# Altium integrated library NUVOTON.IntLib: 234 symbols (part 6 of 9)

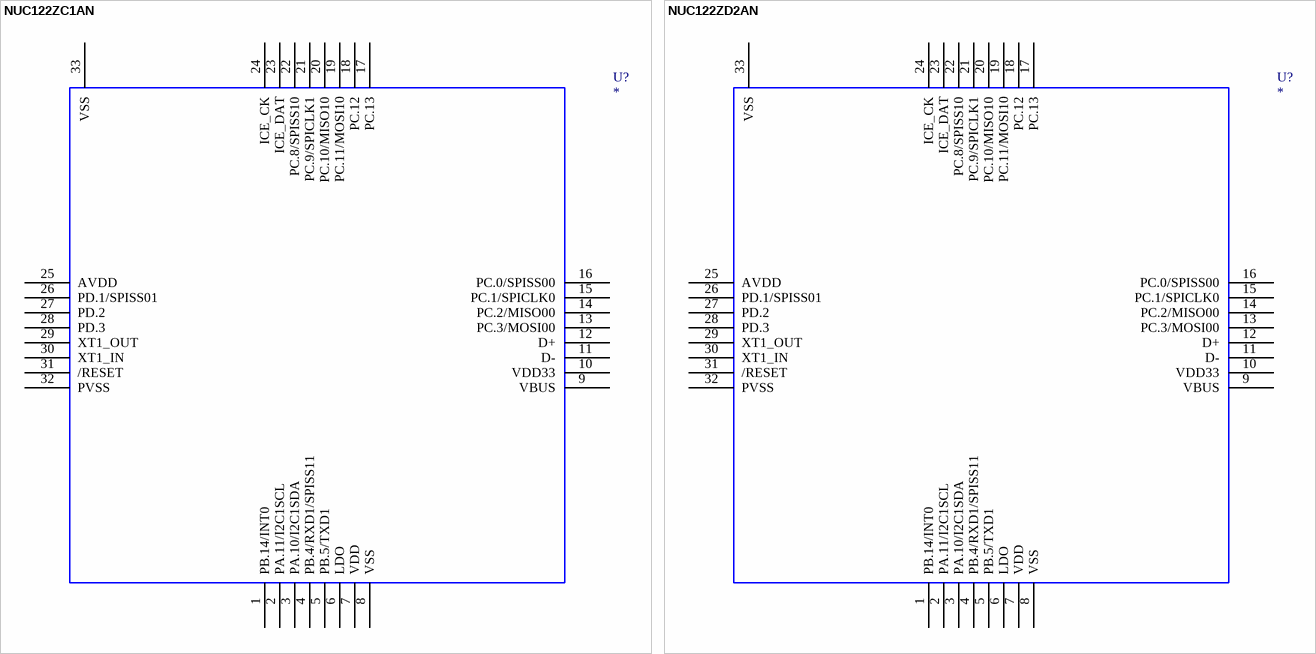
[diagram p115: symbols NUC122ZC1AN to NUC122ZD2AN]

## NUC122ZC1AN
designator U?
OriginalSymbolOrigin: (0,0)
footprint MCU_QFN_33_5x5
pins: 1 PB.14/INT0, 2 PA.11/I2C1SCL, 3 PA.10/I2C1SDA, 4 PB.4/RXD1/SPISS11, 5 PB.5/TXD1, 6 LDO, 7 VDD, 8 VSS, 9 VBUS, 10 VDD33, 11 D-, 12 D+, 13 PC.3/MOSI00, 14 PC.2/MISO00, 15 PC.1/SPICLK0, 16 PC.0/SPISS00, 17 PC.13, 18 PC.12, 19 PC.11/MOSI10, 20 PC.10/MISO10, 21 PC.9/SPICLK1, 22 PC.8/SPISS10, 23 ICE_DAT, 24 ICE_CK, 25 AVDD, 26 PD.1/SPISS01, 27 PD.2, 28 PD.3, 29 XT1_OUT, 30 XT1_IN, 31 /RESET, 32 PVSS, 33 VSS

## NUC122ZD2AN
designator U?
OriginalSymbolOrigin: (0,0)
footprint MCU_QFN_33_5x5
pins: 1 PB.14/INT0, 2 PA.11/I2C1SCL, 3 PA.10/I2C1SDA, 4 PB.4/RXD1/SPISS11, 5 PB.5/TXD1, 6 LDO, 7 VDD, 8 VSS, 9 VBUS, 10 VDD33, 11 D-, 12 D+, 13 PC.3/MOSI00, 14 PC.2/MISO00, 15 PC.1/SPICLK0, 16 PC.0/SPISS00, 17 PC.13, 18 PC.12, 19 PC.11/MOSI10, 20 PC.10/MISO10, 21 PC.9/SPICLK1, 22 PC.8/SPISS10, 23 ICE_DAT, 24 ICE_CK, 25 AVDD, 26 PD.1/SPISS01, 27 PD.2, 28 PD.3, 29 XT1_OUT, 30 XT1_IN, 31 /RESET, 32 PVSS, 33 VSS


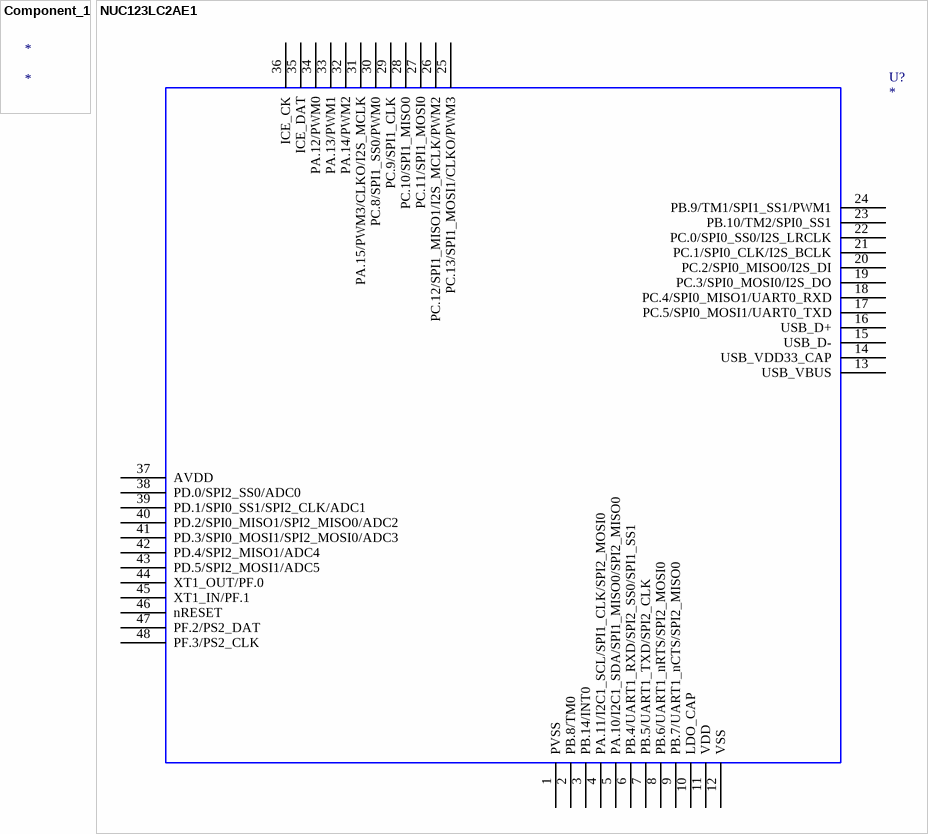
[diagram p116: symbols Component_1 to NUC123LC2AE1]

## Component_1
designator *

## NUC123LC2AE1
designator U?
OriginalSymbolOrigin: (0,0)
footprint MCU_LQFP_48
pins: 1 PVSS, 2 PB.8/TM0, 3 PB.14/INT0, 4 PA.11/I2C1_SCL/SPI1_CLK/SPI2_MOSI0, 5 PA.10/I2C1_SDA/SPI1_MISO0/SPI2_MISO0, 6 PB.4/UART1_RXD/SPI2_SS0/SPI1_SS1, 7 PB.5/UART1_TXD/SPI2_CLK, 8 PB.6/UART1_nRTS/SPI2_MOSI0, 9 PB.7/UART1_nCTS/SPI2_MISO0, 10 LDO_CAP, 11 VDD, 12 VSS, 13 USB_VBUS, 14 USB_VDD33_CAP, 15 USB_D-, 16 USB_D+, 17 PC.5/SPI0_MOSI1/UART0_TXD, 18 PC.4/SPI0_MISO1/UART0_RXD, 19 PC.3/SPI0_MOSI0/I2S_DO, 20 PC.2/SPI0_MISO0/I2S_DI, 21 PC.1/SPI0_CLK/I2S_BCLK, 22 PC.0/SPI0_SS0/I2S_LRCLK, 23 PB.10/TM2/SPI0_SS1, 24 PB.9/TM1/SPI1_SS1/PWM1, 25 PC.13/SPI1_MOSI1/CLKO/PWM3, 26 PC.12/SPI1_MISO1/I2S_MCLK/PWM2, 27 PC.11/SPI1_MOSI0, 28 PC.10/SPI1_MISO0, 29 PC.9/SPI1_CLK, 30 PC.8/SPI1_SS0/PWM0, 31 PA.15/PWM3/CLKO/I2S_MCLK, 32 PA.14/PWM2, 33 PA.13/PWM1, 34 PA.12/PWM0, 35 ICE_DAT, 36 ICE_CK, 37 AVDD, 38 PD.0/SPI2_SS0/ADC0, 39 PD.1/SPI0_SS1/SPI2_CLK/ADC1, 40 PD.2/SPI0_MISO1/SPI2_MISO0/ADC2, 41 PD.3/SPI0_MOSI1/SPI2_MOSI0/ADC3, 42 PD.4/SPI2_MISO1/ADC4, 43 PD.5/SPI2_MOSI1/ADC5, 44 XT1_OUT/PF.0, 45 XT1_IN/PF.1, 46 nRESET, 47 PF.2/PS2_DAT, 48 PF.3/PS2_CLK

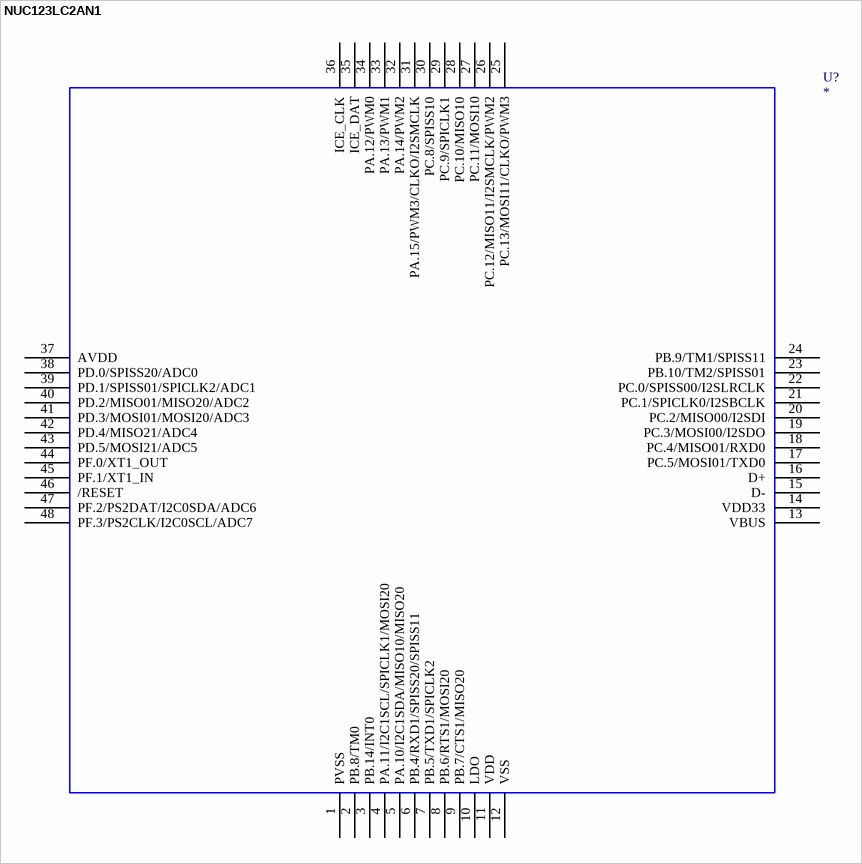
[diagram p117: symbol NUC123LC2AN1]

## NUC123LC2AN1
designator U?
OriginalSymbolOrigin: (0,0)
footprint MCU_LQFP_48
pins: 1 PVSS, 2 PB.8/TM0, 3 PB.14/INT0, 4 PA.11/I2C1SCL/SPICLK1/MOSI20, 5 PA.10/I2C1SDA/MISO10/MISO20, 6 PB.4/RXD1/SPISS20/SPISS11, 7 PB.5/TXD1/SPICLK2, 8 PB.6/RTS1/MOSI20, 9 PB.7/CTS1/MISO20, 10 LDO, 11 VDD, 12 VSS, 13 VBUS, 14 VDD33, 15 D-, 16 D+, 17 PC.5/MOSI01/TXD0, 18 PC.4/MISO01/RXD0, 19 PC.3/MOSI00/I2SDO, 20 PC.2/MISO00/I2SDI, 21 PC.1/SPICLK0/I2SBCLK, 22 PC.0/SPISS00/I2SLRCLK, 23 PB.10/TM2/SPISS01, 24 PB.9/TM1/SPISS11, 25 PC.13/MOSI11/CLKO/PWM3, 26 PC.12/MISO11/I2SMCLK/PWM2, 27 PC.11/MOSI10, 28 PC.10/MISO10, 29 PC.9/SPICLK1, 30 PC.8/SPISS10, 31 PA.15/PWM3/CLKO/I2SMCLK, 32 PA.14/PWM2, 33 PA.13/PWM1, 34 PA.12/PWM0, 35 ICE_DAT, 36 ICE_CLK, 37 AVDD, 38 PD.0/SPISS20/ADC0, 39 PD.1/SPISS01/SPICLK2/ADC1, 40 PD.2/MISO01/MISO20/ADC2, 41 PD.3/MOSI01/MOSI20/ADC3, 42 PD.4/MISO21/ADC4, 43 PD.5/MOSI21/ADC5, 44 PF.0/XT1_OUT, 45 PF.1/XT1_IN, 46 /RESET, 47 PF.2/PS2DAT/I2C0SDA/ADC6, 48 PF.3/PS2CLK/I2C0SCL/ADC7

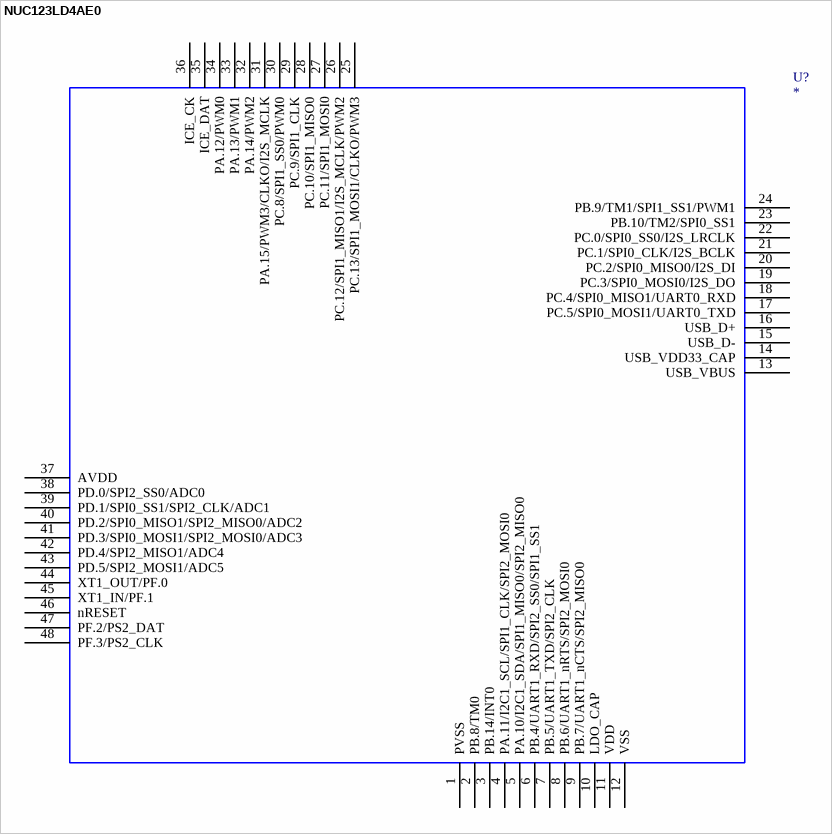
[diagram p118: symbol NUC123LD4AE0]

## NUC123LD4AE0
designator U?
OriginalSymbolOrigin: (0,0)
footprint MCU_LQFP_48
pins: 1 PVSS, 2 PB.8/TM0, 3 PB.14/INT0, 4 PA.11/I2C1_SCL/SPI1_CLK/SPI2_MOSI0, 5 PA.10/I2C1_SDA/SPI1_MISO0/SPI2_MISO0, 6 PB.4/UART1_RXD/SPI2_SS0/SPI1_SS1, 7 PB.5/UART1_TXD/SPI2_CLK, 8 PB.6/UART1_nRTS/SPI2_MOSI0, 9 PB.7/UART1_nCTS/SPI2_MISO0, 10 LDO_CAP, 11 VDD, 12 VSS, 13 USB_VBUS, 14 USB_VDD33_CAP, 15 USB_D-, 16 USB_D+, 17 PC.5/SPI0_MOSI1/UART0_TXD, 18 PC.4/SPI0_MISO1/UART0_RXD, 19 PC.3/SPI0_MOSI0/I2S_DO, 20 PC.2/SPI0_MISO0/I2S_DI, 21 PC.1/SPI0_CLK/I2S_BCLK, 22 PC.0/SPI0_SS0/I2S_LRCLK, 23 PB.10/TM2/SPI0_SS1, 24 PB.9/TM1/SPI1_SS1/PWM1, 25 PC.13/SPI1_MOSI1/CLKO/PWM3, 26 PC.12/SPI1_MISO1/I2S_MCLK/PWM2, 27 PC.11/SPI1_MOSI0, 28 PC.10/SPI1_MISO0, 29 PC.9/SPI1_CLK, 30 PC.8/SPI1_SS0/PWM0, 31 PA.15/PWM3/CLKO/I2S_MCLK, 32 PA.14/PWM2, 33 PA.13/PWM1, 34 PA.12/PWM0, 35 ICE_DAT, 36 ICE_CK, 37 AVDD, 38 PD.0/SPI2_SS0/ADC0, 39 PD.1/SPI0_SS1/SPI2_CLK/ADC1, 40 PD.2/SPI0_MISO1/SPI2_MISO0/ADC2, 41 PD.3/SPI0_MOSI1/SPI2_MOSI0/ADC3, 42 PD.4/SPI2_MISO1/ADC4, 43 PD.5/SPI2_MOSI1/ADC5, 44 XT1_OUT/PF.0, 45 XT1_IN/PF.1, 46 nRESET, 47 PF.2/PS2_DAT, 48 PF.3/PS2_CLK

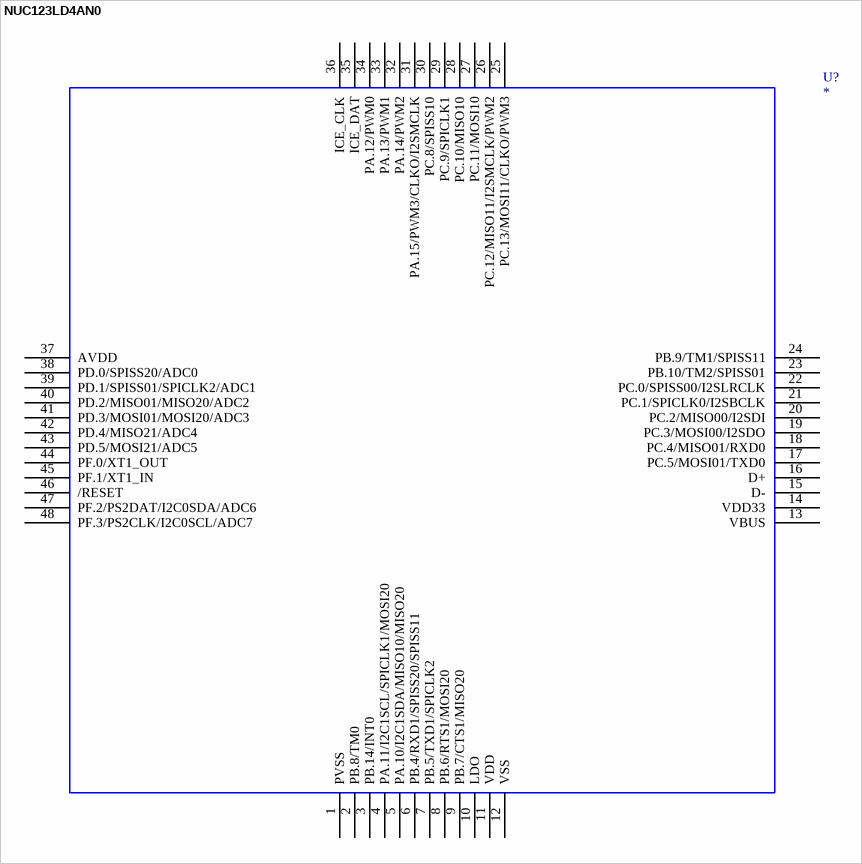
[diagram p119: symbol NUC123LD4AN0]

## NUC123LD4AN0
designator U?
OriginalSymbolOrigin: (0,0)
footprint MCU_LQFP_48
pins: 1 PVSS, 2 PB.8/TM0, 3 PB.14/INT0, 4 PA.11/I2C1SCL/SPICLK1/MOSI20, 5 PA.10/I2C1SDA/MISO10/MISO20, 6 PB.4/RXD1/SPISS20/SPISS11, 7 PB.5/TXD1/SPICLK2, 8 PB.6/RTS1/MOSI20, 9 PB.7/CTS1/MISO20, 10 LDO, 11 VDD, 12 VSS, 13 VBUS, 14 VDD33, 15 D-, 16 D+, 17 PC.5/MOSI01/TXD0, 18 PC.4/MISO01/RXD0, 19 PC.3/MOSI00/I2SDO, 20 PC.2/MISO00/I2SDI, 21 PC.1/SPICLK0/I2SBCLK, 22 PC.0/SPISS00/I2SLRCLK, 23 PB.10/TM2/SPISS01, 24 PB.9/TM1/SPISS11, 25 PC.13/MOSI11/CLKO/PWM3, 26 PC.12/MISO11/I2SMCLK/PWM2, 27 PC.11/MOSI10, 28 PC.10/MISO10, 29 PC.9/SPICLK1, 30 PC.8/SPISS10, 31 PA.15/PWM3/CLKO/I2SMCLK, 32 PA.14/PWM2, 33 PA.13/PWM1, 34 PA.12/PWM0, 35 ICE_DAT, 36 ICE_CLK, 37 AVDD, 38 PD.0/SPISS20/ADC0, 39 PD.1/SPISS01/SPICLK2/ADC1, 40 PD.2/MISO01/MISO20/ADC2, 41 PD.3/MOSI01/MOSI20/ADC3, 42 PD.4/MISO21/ADC4, 43 PD.5/MOSI21/ADC5, 44 PF.0/XT1_OUT, 45 PF.1/XT1_IN, 46 /RESET, 47 PF.2/PS2DAT/I2C0SDA/ADC6, 48 PF.3/PS2CLK/I2C0SCL/ADC7

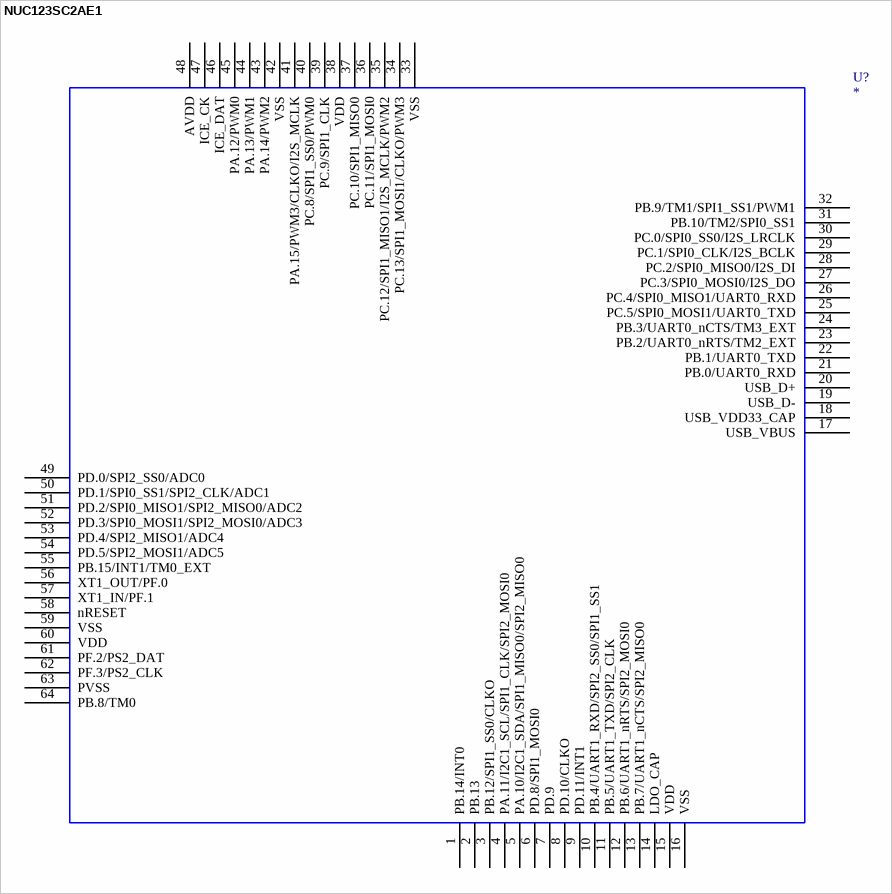
[diagram p120: symbol NUC123SC2AE1]

## NUC123SC2AE1
designator U?
OriginalSymbolOrigin: (0,0)
footprint MCU_LQFP_64_7x7
pins: 1 PB.14/INT0, 2 PB.13, 3 PB.12/SPI1_SS0/CLKO, 4 PA.11/I2C1_SCL/SPI1_CLK/SPI2_MOSI0, 5 PA.10/I2C1_SDA/SPI1_MISO0/SPI2_MISO0, 6 PD.8/SPI1_MOSI0, 7 PD.9, 8 PD.10/CLKO, 9 PD.11/INT1, 10 PB.4/UART1_RXD/SPI2_SS0/SPI1_SS1, 11 PB.5/UART1_TXD/SPI2_CLK, 12 PB.6/UART1_nRTS/SPI2_MOSI0, 13 PB.7/UART1_nCTS/SPI2_MISO0, 14 LDO_CAP, 15 VDD, 16 VSS, 17 USB_VBUS, 18 USB_VDD33_CAP, 19 USB_D-, 20 USB_D+, 21 PB.0/UART0_RXD, 22 PB.1/UART0_TXD, 23 PB.2/UART0_nRTS/TM2_EXT, 24 PB.3/UART0_nCTS/TM3_EXT, 25 PC.5/SPI0_MOSI1/UART0_TXD, 26 PC.4/SPI0_MISO1/UART0_RXD, 27 PC.3/SPI0_MOSI0/I2S_DO, 28 PC.2/SPI0_MISO0/I2S_DI, 29 PC.1/SPI0_CLK/I2S_BCLK, 30 PC.0/SPI0_SS0/I2S_LRCLK, 31 PB.10/TM2/SPI0_SS1, 32 PB.9/TM1/SPI1_SS1/PWM1, 33 VSS, 34 PC.13/SPI1_MOSI1/CLKO/PWM3, 35 PC.12/SPI1_MISO1/I2S_MCLK/PWM2, 36 PC.11/SPI1_MOSI0, 37 PC.10/SPI1_MISO0, 38 VDD, 39 PC.9/SPI1_CLK, 40 PC.8/SPI1_SS0/PWM0, 41 PA.15/PWM3/CLKO/I2S_MCLK, 42 VSS, 43 PA.14/PWM2, 44 PA.13/PWM1, 45 PA.12/PWM0, 46 ICE_DAT, 47 ICE_CK, 48 AVDD, 49 PD.0/SPI2_SS0/ADC0, 50 PD.1/SPI0_SS1/SPI2_CLK/ADC1, 51 PD.2/SPI0_MISO1/SPI2_MISO0/ADC2, 52 PD.3/SPI0_MOSI1/SPI2_MOSI0/ADC3, 53 PD.4/SPI2_MISO1/ADC4, 54 PD.5/SPI2_MOSI1/ADC5, 55 PB.15/INT1/TM0_EXT, 56 XT1_OUT/PF.0, 57 XT1_IN/PF.1, 58 nRESET, 59 VSS, 60 VDD, 61 PF.2/PS2_DAT, 62 PF.3/PS2_CLK, 63 PVSS, 64 PB.8/TM0

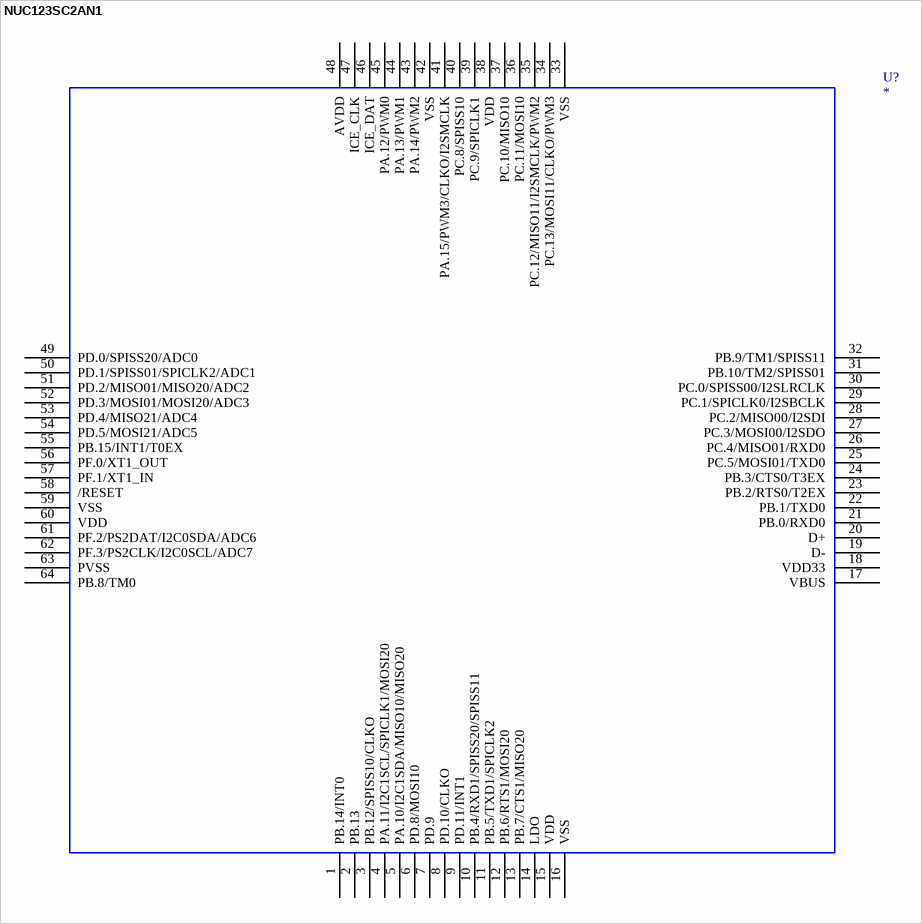
[diagram p121: symbol NUC123SC2AN1]

## NUC123SC2AN1
designator U?
OriginalSymbolOrigin: (0,0)
footprint MCU_LQFP_64_7x7
pins: 1 PB.14/INT0, 2 PB.13, 3 PB.12/SPISS10/CLKO, 4 PA.11/I2C1SCL/SPICLK1/MOSI20, 5 PA.10/I2C1SDA/MISO10/MISO20, 6 PD.8/MOSI10, 7 PD.9, 8 PD.10/CLKO, 9 PD.11/INT1, 10 PB.4/RXD1/SPISS20/SPISS11, 11 PB.5/TXD1/SPICLK2, 12 PB.6/RTS1/MOSI20, 13 PB.7/CTS1/MISO20, 14 LDO, 15 VDD, 16 VSS, 17 VBUS, 18 VDD33, 19 D-, 20 D+, 21 PB.0/RXD0, 22 PB.1/TXD0, 23 PB.2/RTS0/T2EX, 24 PB.3/CTS0/T3EX, 25 PC.5/MOSI01/TXD0, 26 PC.4/MISO01/RXD0, 27 PC.3/MOSI00/I2SDO, 28 PC.2/MISO00/I2SDI, 29 PC.1/SPICLK0/I2SBCLK, 30 PC.0/SPISS00/I2SLRCLK, 31 PB.10/TM2/SPISS01, 32 PB.9/TM1/SPISS11, 33 VSS, 34 PC.13/MOSI11/CLKO/PWM3, 35 PC.12/MISO11/I2SMCLK/PWM2, 36 PC.11/MOSI10, 37 PC.10/MISO10, 38 VDD, 39 PC.9/SPICLK1, 40 PC.8/SPISS10, 41 PA.15/PWM3/CLKO/I2SMCLK, 42 VSS, 43 PA.14/PWM2, 44 PA.13/PWM1, 45 PA.12/PWM0, 46 ICE_DAT, 47 ICE_CLK, 48 AVDD, 49 PD.0/SPISS20/ADC0, 50 PD.1/SPISS01/SPICLK2/ADC1, 51 PD.2/MISO01/MISO20/ADC2, 52 PD.3/MOSI01/MOSI20/ADC3, 53 PD.4/MISO21/ADC4, 54 PD.5/MOSI21/ADC5, 55 PB.15/INT1/T0EX, 56 PF.0/XT1_OUT, 57 PF.1/XT1_IN, 58 /RESET, 59 VSS, 60 VDD, 61 PF.2/PS2DAT/I2C0SDA/ADC6, 62 PF.3/PS2CLK/I2C0SCL/ADC7, 63 PVSS, 64 PB.8/TM0

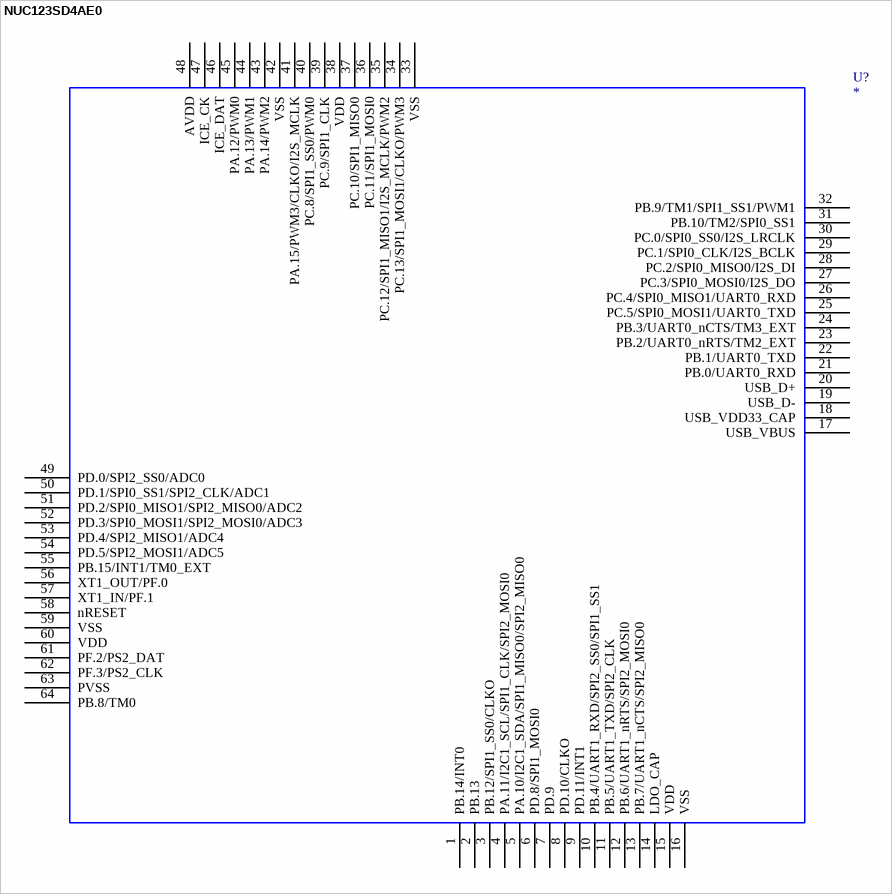
[diagram p122: symbol NUC123SD4AE0]

## NUC123SD4AE0
designator U?
OriginalSymbolOrigin: (0,0)
footprint MCU_LQFP_64_7x7
pins: 1 PB.14/INT0, 2 PB.13, 3 PB.12/SPI1_SS0/CLKO, 4 PA.11/I2C1_SCL/SPI1_CLK/SPI2_MOSI0, 5 PA.10/I2C1_SDA/SPI1_MISO0/SPI2_MISO0, 6 PD.8/SPI1_MOSI0, 7 PD.9, 8 PD.10/CLKO, 9 PD.11/INT1, 10 PB.4/UART1_RXD/SPI2_SS0/SPI1_SS1, 11 PB.5/UART1_TXD/SPI2_CLK, 12 PB.6/UART1_nRTS/SPI2_MOSI0, 13 PB.7/UART1_nCTS/SPI2_MISO0, 14 LDO_CAP, 15 VDD, 16 VSS, 17 USB_VBUS, 18 USB_VDD33_CAP, 19 USB_D-, 20 USB_D+, 21 PB.0/UART0_RXD, 22 PB.1/UART0_TXD, 23 PB.2/UART0_nRTS/TM2_EXT, 24 PB.3/UART0_nCTS/TM3_EXT, 25 PC.5/SPI0_MOSI1/UART0_TXD, 26 PC.4/SPI0_MISO1/UART0_RXD, 27 PC.3/SPI0_MOSI0/I2S_DO, 28 PC.2/SPI0_MISO0/I2S_DI, 29 PC.1/SPI0_CLK/I2S_BCLK, 30 PC.0/SPI0_SS0/I2S_LRCLK, 31 PB.10/TM2/SPI0_SS1, 32 PB.9/TM1/SPI1_SS1/PWM1, 33 VSS, 34 PC.13/SPI1_MOSI1/CLKO/PWM3, 35 PC.12/SPI1_MISO1/I2S_MCLK/PWM2, 36 PC.11/SPI1_MOSI0, 37 PC.10/SPI1_MISO0, 38 VDD, 39 PC.9/SPI1_CLK, 40 PC.8/SPI1_SS0/PWM0, 41 PA.15/PWM3/CLKO/I2S_MCLK, 42 VSS, 43 PA.14/PWM2, 44 PA.13/PWM1, 45 PA.12/PWM0, 46 ICE_DAT, 47 ICE_CK, 48 AVDD, 49 PD.0/SPI2_SS0/ADC0, 50 PD.1/SPI0_SS1/SPI2_CLK/ADC1, 51 PD.2/SPI0_MISO1/SPI2_MISO0/ADC2, 52 PD.3/SPI0_MOSI1/SPI2_MOSI0/ADC3, 53 PD.4/SPI2_MISO1/ADC4, 54 PD.5/SPI2_MOSI1/ADC5, 55 PB.15/INT1/TM0_EXT, 56 XT1_OUT/PF.0, 57 XT1_IN/PF.1, 58 nRESET, 59 VSS, 60 VDD, 61 PF.2/PS2_DAT, 62 PF.3/PS2_CLK, 63 PVSS, 64 PB.8/TM0

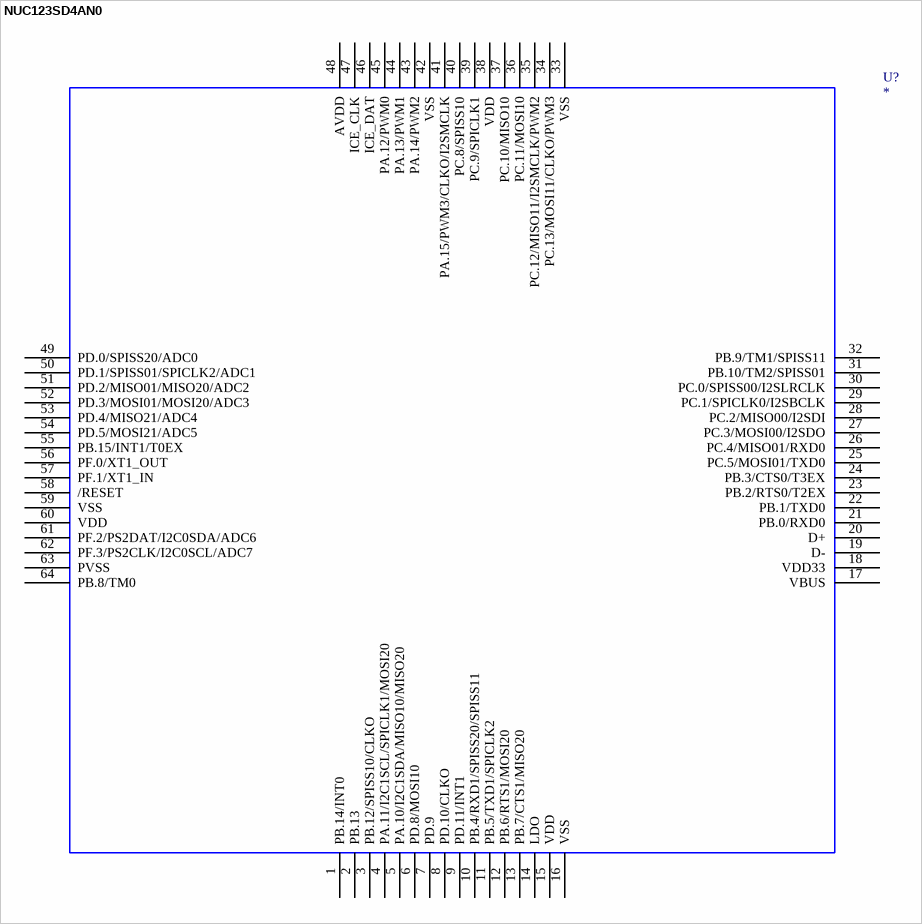
[diagram p123: symbol NUC123SD4AN0]

## NUC123SD4AN0
designator U?
OriginalSymbolOrigin: (0,0)
footprint MCU_LQFP_64_7x7
pins: 1 PB.14/INT0, 2 PB.13, 3 PB.12/SPISS10/CLKO, 4 PA.11/I2C1SCL/SPICLK1/MOSI20, 5 PA.10/I2C1SDA/MISO10/MISO20, 6 PD.8/MOSI10, 7 PD.9, 8 PD.10/CLKO, 9 PD.11/INT1, 10 PB.4/RXD1/SPISS20/SPISS11, 11 PB.5/TXD1/SPICLK2, 12 PB.6/RTS1/MOSI20, 13 PB.7/CTS1/MISO20, 14 LDO, 15 VDD, 16 VSS, 17 VBUS, 18 VDD33, 19 D-, 20 D+, 21 PB.0/RXD0, 22 PB.1/TXD0, 23 PB.2/RTS0/T2EX, 24 PB.3/CTS0/T3EX, 25 PC.5/MOSI01/TXD0, 26 PC.4/MISO01/RXD0, 27 PC.3/MOSI00/I2SDO, 28 PC.2/MISO00/I2SDI, 29 PC.1/SPICLK0/I2SBCLK, 30 PC.0/SPISS00/I2SLRCLK, 31 PB.10/TM2/SPISS01, 32 PB.9/TM1/SPISS11, 33 VSS, 34 PC.13/MOSI11/CLKO/PWM3, 35 PC.12/MISO11/I2SMCLK/PWM2, 36 PC.11/MOSI10, 37 PC.10/MISO10, 38 VDD, 39 PC.9/SPICLK1, 40 PC.8/SPISS10, 41 PA.15/PWM3/CLKO/I2SMCLK, 42 VSS, 43 PA.14/PWM2, 44 PA.13/PWM1, 45 PA.12/PWM0, 46 ICE_DAT, 47 ICE_CLK, 48 AVDD, 49 PD.0/SPISS20/ADC0, 50 PD.1/SPISS01/SPICLK2/ADC1, 51 PD.2/MISO01/MISO20/ADC2, 52 PD.3/MOSI01/MOSI20/ADC3, 53 PD.4/MISO21/ADC4, 54 PD.5/MOSI21/ADC5, 55 PB.15/INT1/T0EX, 56 PF.0/XT1_OUT, 57 PF.1/XT1_IN, 58 /RESET, 59 VSS, 60 VDD, 61 PF.2/PS2DAT/I2C0SDA/ADC6, 62 PF.3/PS2CLK/I2C0SCL/ADC7, 63 PVSS, 64 PB.8/TM0

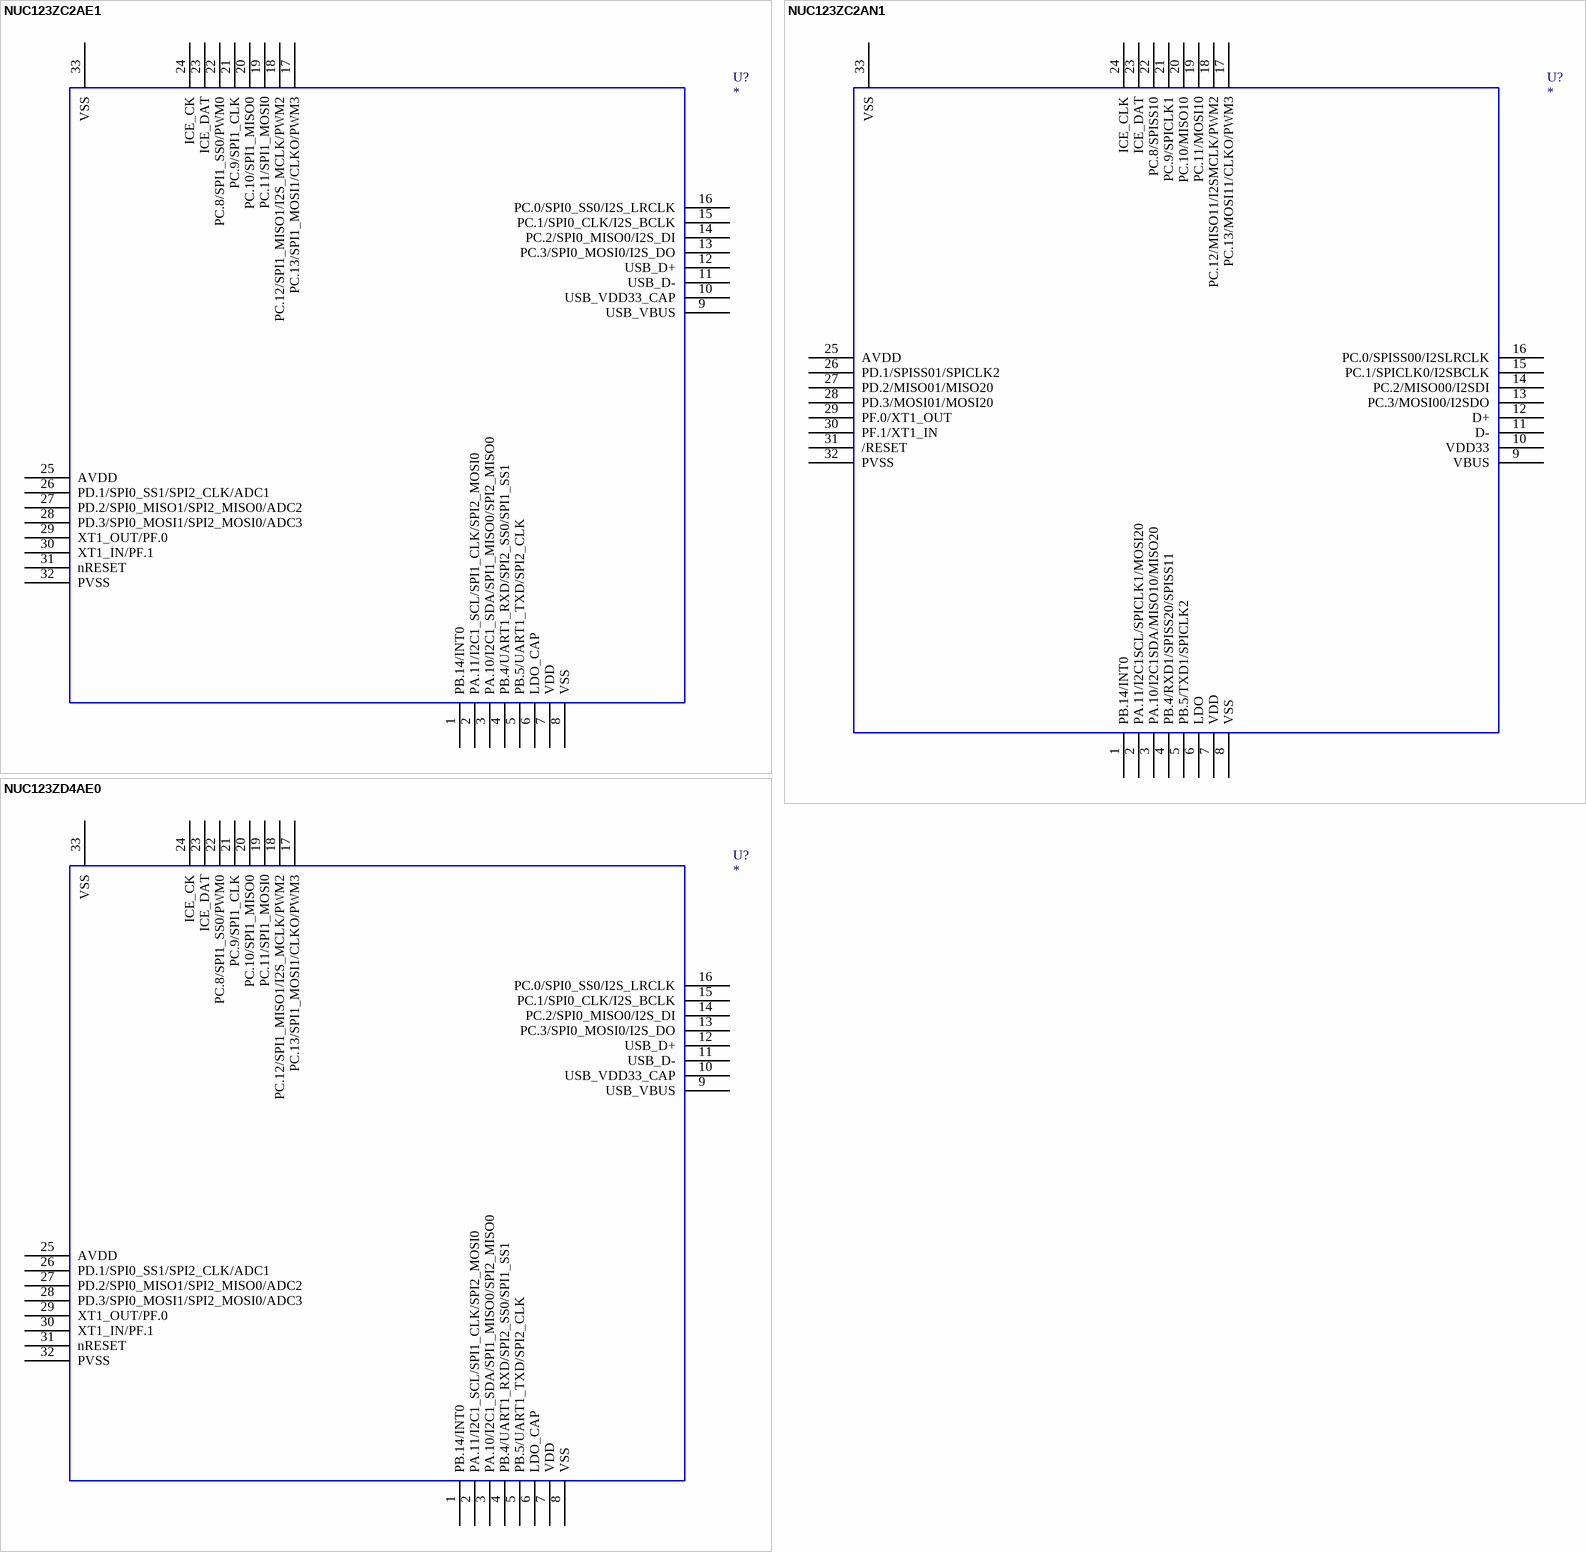
[diagram p124: symbols NUC123ZC2AE1 to NUC123ZD4AE0]

## NUC123ZC2AE1
designator U?
OriginalSymbolOrigin: (0,0)
footprint MCU_QFN_33_5x5
pins: 1 PB.14/INT0, 2 PA.11/I2C1_SCL/SPI1_CLK/SPI2_MOSI0, 3 PA.10/I2C1_SDA/SPI1_MISO0/SPI2_MISO0, 4 PB.4/UART1_RXD/SPI2_SS0/SPI1_SS1, 5 PB.5/UART1_TXD/SPI2_CLK, 6 LDO_CAP, 7 VDD, 8 VSS, 9 USB_VBUS, 10 USB_VDD33_CAP, 11 USB_D-, 12 USB_D+, 13 PC.3/SPI0_MOSI0/I2S_DO, 14 PC.2/SPI0_MISO0/I2S_DI, 15 PC.1/SPI0_CLK/I2S_BCLK, 16 PC.0/SPI0_SS0/I2S_LRCLK, 17 PC.13/SPI1_MOSI1/CLKO/PWM3, 18 PC.12/SPI1_MISO1/I2S_MCLK/PWM2, 19 PC.11/SPI1_MOSI0, 20 PC.10/SPI1_MISO0, 21 PC.9/SPI1_CLK, 22 PC.8/SPI1_SS0/PWM0, 23 ICE_DAT, 24 ICE_CK, 25 AVDD, 26 PD.1/SPI0_SS1/SPI2_CLK/ADC1, 27 PD.2/SPI0_MISO1/SPI2_MISO0/ADC2, 28 PD.3/SPI0_MOSI1/SPI2_MOSI0/ADC3, 29 XT1_OUT/PF.0, 30 XT1_IN/PF.1, 31 nRESET, 32 PVSS, 33 VSS

## NUC123ZC2AN1
designator U?
OriginalSymbolOrigin: (0,0)
footprint MCU_QFN_33_5x5
pins: 1 PB.14/INT0, 2 PA.11/I2C1SCL/SPICLK1/MOSI20, 3 PA.10/I2C1SDA/MISO10/MISO20, 4 PB.4/RXD1/SPISS20/SPISS11, 5 PB.5/TXD1/SPICLK2, 6 LDO, 7 VDD, 8 VSS, 9 VBUS, 10 VDD33, 11 D-, 12 D+, 13 PC.3/MOSI00/I2SDO, 14 PC.2/MISO00/I2SDI, 15 PC.1/SPICLK0/I2SBCLK, 16 PC.0/SPISS00/I2SLRCLK, 17 PC.13/MOSI11/CLKO/PWM3, 18 PC.12/MISO11/I2SMCLK/PWM2, 19 PC.11/MOSI10, 20 PC.10/MISO10, 21 PC.9/SPICLK1, 22 PC.8/SPISS10, 23 ICE_DAT, 24 ICE_CLK, 25 AVDD, 26 PD.1/SPISS01/SPICLK2, 27 PD.2/MISO01/MISO20, 28 PD.3/MOSI01/MOSI20, 29 PF.0/XT1_OUT, 30 PF.1/XT1_IN, 31 /RESET, 32 PVSS, 33 VSS

## NUC123ZD4AE0
designator U?
OriginalSymbolOrigin: (0,0)
footprint MCU_QFN_33_5x5
pins: 1 PB.14/INT0, 2 PA.11/I2C1_SCL/SPI1_CLK/SPI2_MOSI0, 3 PA.10/I2C1_SDA/SPI1_MISO0/SPI2_MISO0, 4 PB.4/UART1_RXD/SPI2_SS0/SPI1_SS1, 5 PB.5/UART1_TXD/SPI2_CLK, 6 LDO_CAP, 7 VDD, 8 VSS, 9 USB_VBUS, 10 USB_VDD33_CAP, 11 USB_D-, 12 USB_D+, 13 PC.3/SPI0_MOSI0/I2S_DO, 14 PC.2/SPI0_MISO0/I2S_DI, 15 PC.1/SPI0_CLK/I2S_BCLK, 16 PC.0/SPI0_SS0/I2S_LRCLK, 17 PC.13/SPI1_MOSI1/CLKO/PWM3, 18 PC.12/SPI1_MISO1/I2S_MCLK/PWM2, 19 PC.11/SPI1_MOSI0, 20 PC.10/SPI1_MISO0, 21 PC.9/SPI1_CLK, 22 PC.8/SPI1_SS0/PWM0, 23 ICE_DAT, 24 ICE_CK, 25 AVDD, 26 PD.1/SPI0_SS1/SPI2_CLK/ADC1, 27 PD.2/SPI0_MISO1/SPI2_MISO0/ADC2, 28 PD.3/SPI0_MOSI1/SPI2_MOSI0/ADC3, 29 XT1_OUT/PF.0, 30 XT1_IN/PF.1, 31 nRESET, 32 PVSS, 33 VSS

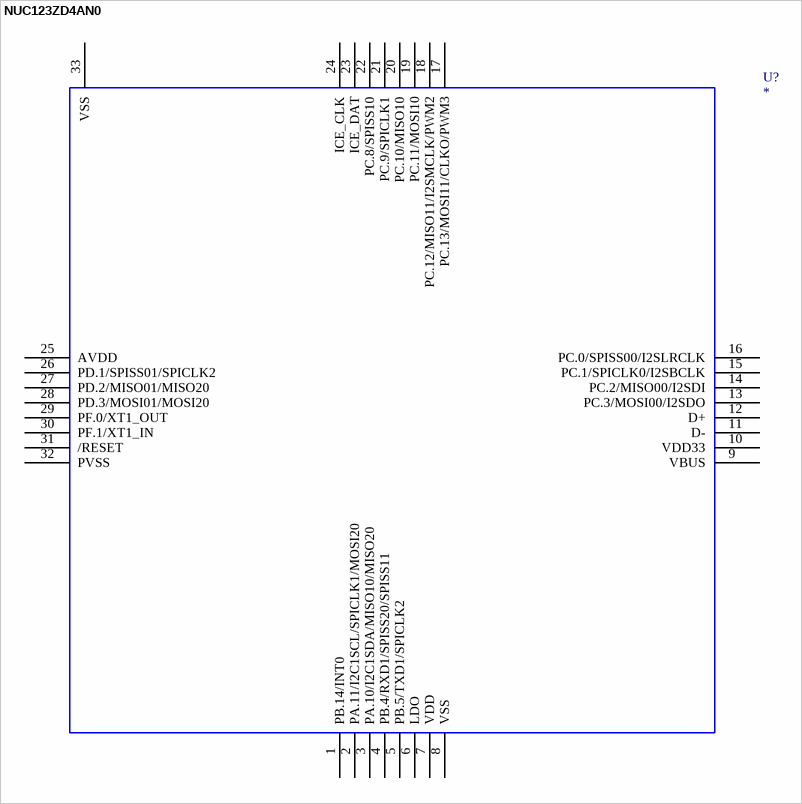
[diagram p125: symbol NUC123ZD4AN0]

## NUC123ZD4AN0
designator U?
OriginalSymbolOrigin: (0,0)
footprint MCU_QFN_33_5x5
pins: 1 PB.14/INT0, 2 PA.11/I2C1SCL/SPICLK1/MOSI20, 3 PA.10/I2C1SDA/MISO10/MISO20, 4 PB.4/RXD1/SPISS20/SPISS11, 5 PB.5/TXD1/SPICLK2, 6 LDO, 7 VDD, 8 VSS, 9 VBUS, 10 VDD33, 11 D-, 12 D+, 13 PC.3/MOSI00/I2SDO, 14 PC.2/MISO00/I2SDI, 15 PC.1/SPICLK0/I2SBCLK, 16 PC.0/SPISS00/I2SLRCLK, 17 PC.13/MOSI11/CLKO/PWM3, 18 PC.12/MISO11/I2SMCLK/PWM2, 19 PC.11/MOSI10, 20 PC.10/MISO10, 21 PC.9/SPICLK1, 22 PC.8/SPISS10, 23 ICE_DAT, 24 ICE_CLK, 25 AVDD, 26 PD.1/SPISS01/SPICLK2, 27 PD.2/MISO01/MISO20, 28 PD.3/MOSI01/MOSI20, 29 PF.0/XT1_OUT, 30 PF.1/XT1_IN, 31 /RESET, 32 PVSS, 33 VSS


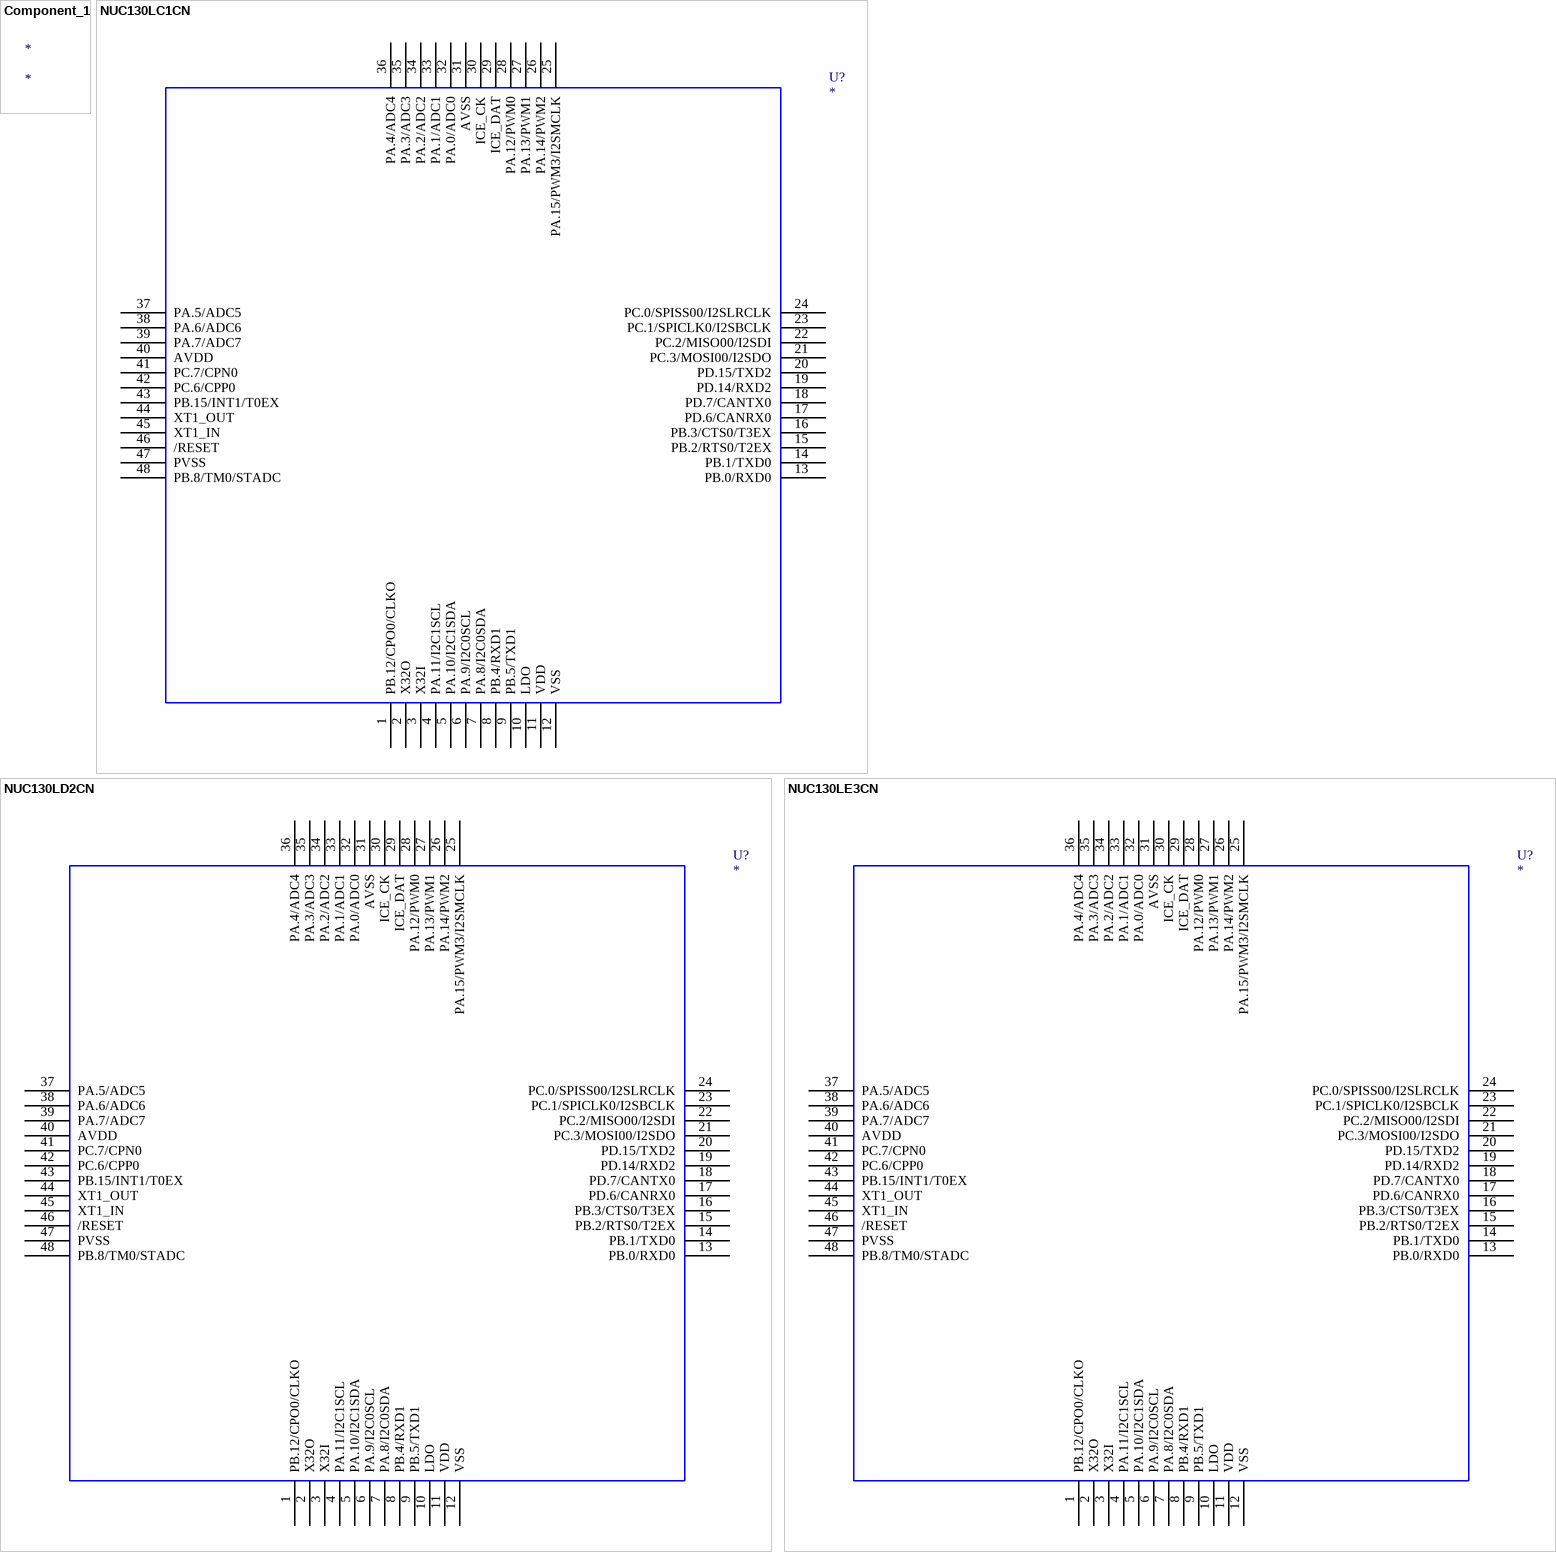
[diagram p126: symbols Component_1 to NUC130LE3CN]

## Component_1
designator *

## NUC130LC1CN
designator U?
OriginalSymbolOrigin: (0,0)
footprint MCU_LQFP_48
pins: 1 PB.12/CPO0/CLKO, 2 X32O, 3 X32I, 4 PA.11/I2C1SCL, 5 PA.10/I2C1SDA, 6 PA.9/I2C0SCL, 7 PA.8/I2C0SDA, 8 PB.4/RXD1, 9 PB.5/TXD1, 10 LDO, 11 VDD, 12 VSS, 13 PB.0/RXD0, 14 PB.1/TXD0, 15 PB.2/RTS0/T2EX, 16 PB.3/CTS0/T3EX, 17 PD.6/CANRX0, 18 PD.7/CANTX0, 19 PD.14/RXD2, 20 PD.15/TXD2, 21 PC.3/MOSI00/I2SDO, 22 PC.2/MISO00/I2SDI, 23 PC.1/SPICLK0/I2SBCLK, 24 PC.0/SPISS00/I2SLRCLK, 25 PA.15/PWM3/I2SMCLK, 26 PA.14/PWM2, 27 PA.13/PWM1, 28 PA.12/PWM0, 29 ICE_DAT, 30 ICE_CK, 31 AVSS, 32 PA.0/ADC0, 33 PA.1/ADC1, 34 PA.2/ADC2, 35 PA.3/ADC3, 36 PA.4/ADC4, 37 PA.5/ADC5, 38 PA.6/ADC6, 39 PA.7/ADC7, 40 AVDD, 41 PC.7/CPN0, 42 PC.6/CPP0, 43 PB.15/INT1/T0EX, 44 XT1_OUT, 45 XT1_IN, 46 /RESET, 47 PVSS, 48 PB.8/TM0/STADC

## NUC130LD2CN
designator U?
OriginalSymbolOrigin: (0,0)
footprint MCU_LQFP_48
pins: 1 PB.12/CPO0/CLKO, 2 X32O, 3 X32I, 4 PA.11/I2C1SCL, 5 PA.10/I2C1SDA, 6 PA.9/I2C0SCL, 7 PA.8/I2C0SDA, 8 PB.4/RXD1, 9 PB.5/TXD1, 10 LDO, 11 VDD, 12 VSS, 13 PB.0/RXD0, 14 PB.1/TXD0, 15 PB.2/RTS0/T2EX, 16 PB.3/CTS0/T3EX, 17 PD.6/CANRX0, 18 PD.7/CANTX0, 19 PD.14/RXD2, 20 PD.15/TXD2, 21 PC.3/MOSI00/I2SDO, 22 PC.2/MISO00/I2SDI, 23 PC.1/SPICLK0/I2SBCLK, 24 PC.0/SPISS00/I2SLRCLK, 25 PA.15/PWM3/I2SMCLK, 26 PA.14/PWM2, 27 PA.13/PWM1, 28 PA.12/PWM0, 29 ICE_DAT, 30 ICE_CK, 31 AVSS, 32 PA.0/ADC0, 33 PA.1/ADC1, 34 PA.2/ADC2, 35 PA.3/ADC3, 36 PA.4/ADC4, 37 PA.5/ADC5, 38 PA.6/ADC6, 39 PA.7/ADC7, 40 AVDD, 41 PC.7/CPN0, 42 PC.6/CPP0, 43 PB.15/INT1/T0EX, 44 XT1_OUT, 45 XT1_IN, 46 /RESET, 47 PVSS, 48 PB.8/TM0/STADC

## NUC130LE3CN
designator U?
OriginalSymbolOrigin: (0,0)
footprint MCU_LQFP_48
pins: 1 PB.12/CPO0/CLKO, 2 X32O, 3 X32I, 4 PA.11/I2C1SCL, 5 PA.10/I2C1SDA, 6 PA.9/I2C0SCL, 7 PA.8/I2C0SDA, 8 PB.4/RXD1, 9 PB.5/TXD1, 10 LDO, 11 VDD, 12 VSS, 13 PB.0/RXD0, 14 PB.1/TXD0, 15 PB.2/RTS0/T2EX, 16 PB.3/CTS0/T3EX, 17 PD.6/CANRX0, 18 PD.7/CANTX0, 19 PD.14/RXD2, 20 PD.15/TXD2, 21 PC.3/MOSI00/I2SDO, 22 PC.2/MISO00/I2SDI, 23 PC.1/SPICLK0/I2SBCLK, 24 PC.0/SPISS00/I2SLRCLK, 25 PA.15/PWM3/I2SMCLK, 26 PA.14/PWM2, 27 PA.13/PWM1, 28 PA.12/PWM0, 29 ICE_DAT, 30 ICE_CK, 31 AVSS, 32 PA.0/ADC0, 33 PA.1/ADC1, 34 PA.2/ADC2, 35 PA.3/ADC3, 36 PA.4/ADC4, 37 PA.5/ADC5, 38 PA.6/ADC6, 39 PA.7/ADC7, 40 AVDD, 41 PC.7/CPN0, 42 PC.6/CPP0, 43 PB.15/INT1/T0EX, 44 XT1_OUT, 45 XT1_IN, 46 /RESET, 47 PVSS, 48 PB.8/TM0/STADC

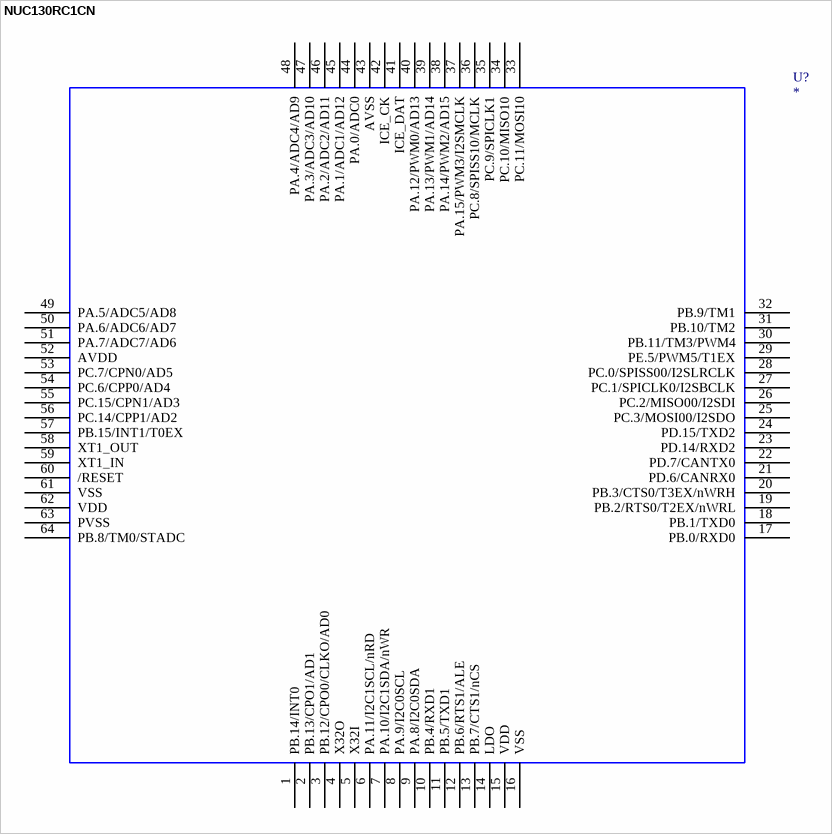
[diagram p127: symbol NUC130RC1CN]

## NUC130RC1CN
designator U?
OriginalSymbolOrigin: (0,0)
footprint MCU_LQFP_64_10x10
pins: 1 PB.14/INT0, 2 PB.13/CPO1/AD1, 3 PB.12/CPO0/CLKO/AD0, 4 X32O, 5 X32I, 6 PA.11/I2C1SCL/nRD, 7 PA.10/I2C1SDA/nWR, 8 PA.9/I2C0SCL, 9 PA.8/I2C0SDA, 10 PB.4/RXD1, 11 PB.5/TXD1, 12 PB.6/RTS1/ALE, 13 PB.7/CTS1/nCS, 14 LDO, 15 VDD, 16 VSS, 17 PB.0/RXD0, 18 PB.1/TXD0, 19 PB.2/RTS0/T2EX/nWRL, 20 PB.3/CTS0/T3EX/nWRH, 21 PD.6/CANRX0, 22 PD.7/CANTX0, 23 PD.14/RXD2, 24 PD.15/TXD2, 25 PC.3/MOSI00/I2SDO, 26 PC.2/MISO00/I2SDI, 27 PC.1/SPICLK0/I2SBCLK, 28 PC.0/SPISS00/I2SLRCLK, 29 PE.5/PWM5/T1EX, 30 PB.11/TM3/PWM4, 31 PB.10/TM2, 32 PB.9/TM1, 33 PC.11/MOSI10, 34 PC.10/MISO10, 35 PC.9/SPICLK1, 36 PC.8/SPISS10/MCLK, 37 PA.15/PWM3/I2SMCLK, 38 PA.14/PWM2/AD15, 39 PA.13/PWM1/AD14, 40 PA.12/PWM0/AD13, 41 ICE_DAT, 42 ICE_CK, 43 AVSS, 44 PA.0/ADC0, 45 PA.1/ADC1/AD12, 46 PA.2/ADC2/AD11, 47 PA.3/ADC3/AD10, 48 PA.4/ADC4/AD9, 49 PA.5/ADC5/AD8, 50 PA.6/ADC6/AD7, 51 PA.7/ADC7/AD6, 52 AVDD, 53 PC.7/CPN0/AD5, 54 PC.6/CPP0/AD4, 55 PC.15/CPN1/AD3, 56 PC.14/CPP1/AD2, 57 PB.15/INT1/T0EX, 58 XT1_OUT, 59 XT1_IN, 60 /RESET, 61 VSS, 62 VDD, 63 PVSS, 64 PB.8/TM0/STADC

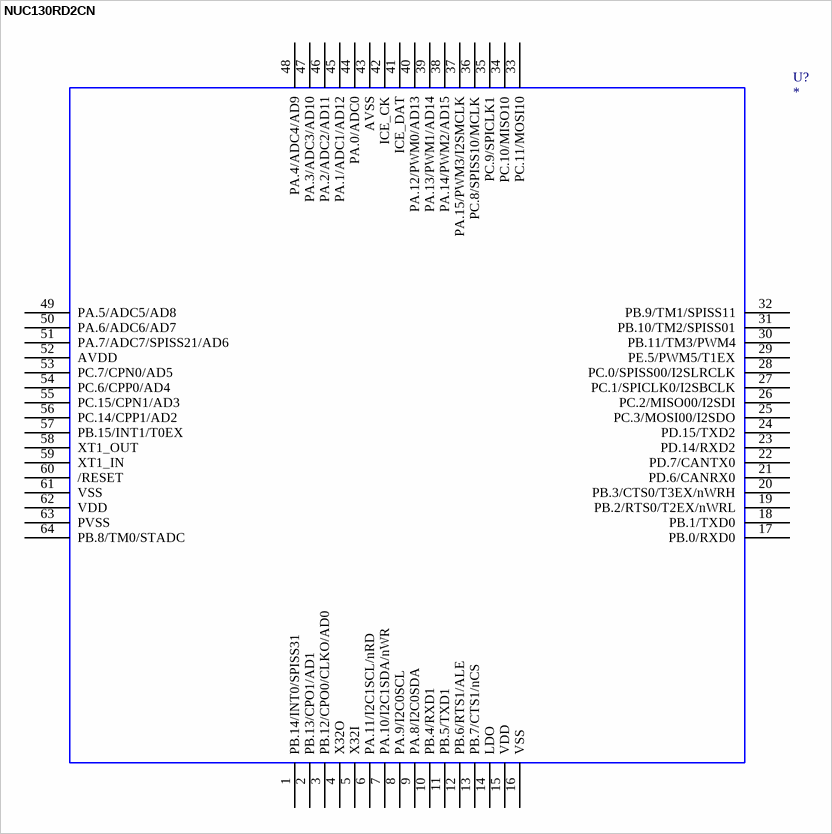
[diagram p128: symbol NUC130RD2CN]

## NUC130RD2CN
designator U?
OriginalSymbolOrigin: (0,0)
footprint MCU_LQFP_64_10x10
pins: 1 PB.14/INT0/SPISS31, 2 PB.13/CPO1/AD1, 3 PB.12/CPO0/CLKO/AD0, 4 X32O, 5 X32I, 6 PA.11/I2C1SCL/nRD, 7 PA.10/I2C1SDA/nWR, 8 PA.9/I2C0SCL, 9 PA.8/I2C0SDA, 10 PB.4/RXD1, 11 PB.5/TXD1, 12 PB.6/RTS1/ALE, 13 PB.7/CTS1/nCS, 14 LDO, 15 VDD, 16 VSS, 17 PB.0/RXD0, 18 PB.1/TXD0, 19 PB.2/RTS0/T2EX/nWRL, 20 PB.3/CTS0/T3EX/nWRH, 21 PD.6/CANRX0, 22 PD.7/CANTX0, 23 PD.14/RXD2, 24 PD.15/TXD2, 25 PC.3/MOSI00/I2SDO, 26 PC.2/MISO00/I2SDI, 27 PC.1/SPICLK0/I2SBCLK, 28 PC.0/SPISS00/I2SLRCLK, 29 PE.5/PWM5/T1EX, 30 PB.11/TM3/PWM4, 31 PB.10/TM2/SPISS01, 32 PB.9/TM1/SPISS11, 33 PC.11/MOSI10, 34 PC.10/MISO10, 35 PC.9/SPICLK1, 36 PC.8/SPISS10/MCLK, 37 PA.15/PWM3/I2SMCLK, 38 PA.14/PWM2/AD15, 39 PA.13/PWM1/AD14, 40 PA.12/PWM0/AD13, 41 ICE_DAT, 42 ICE_CK, 43 AVSS, 44 PA.0/ADC0, 45 PA.1/ADC1/AD12, 46 PA.2/ADC2/AD11, 47 PA.3/ADC3/AD10, 48 PA.4/ADC4/AD9, 49 PA.5/ADC5/AD8, 50 PA.6/ADC6/AD7, 51 PA.7/ADC7/SPISS21/AD6, 52 AVDD, 53 PC.7/CPN0/AD5, 54 PC.6/CPP0/AD4, 55 PC.15/CPN1/AD3, 56 PC.14/CPP1/AD2, 57 PB.15/INT1/T0EX, 58 XT1_OUT, 59 XT1_IN, 60 /RESET, 61 VSS, 62 VDD, 63 PVSS, 64 PB.8/TM0/STADC

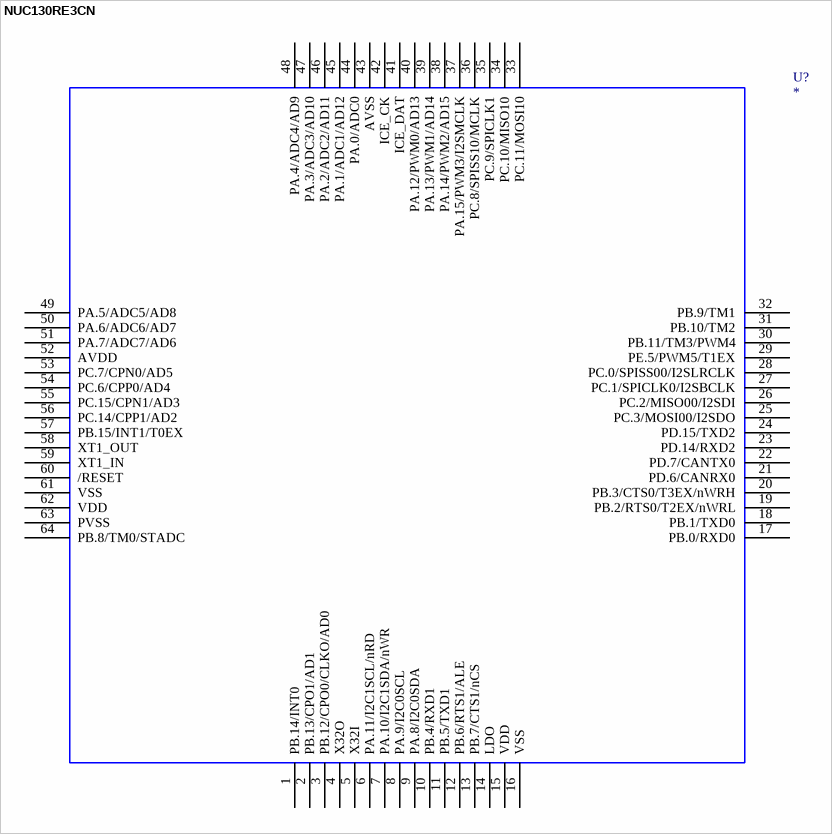
[diagram p129: symbol NUC130RE3CN]

## NUC130RE3CN
designator U?
OriginalSymbolOrigin: (0,0)
footprint MCU_LQFP_64_10x10
pins: 1 PB.14/INT0, 2 PB.13/CPO1/AD1, 3 PB.12/CPO0/CLKO/AD0, 4 X32O, 5 X32I, 6 PA.11/I2C1SCL/nRD, 7 PA.10/I2C1SDA/nWR, 8 PA.9/I2C0SCL, 9 PA.8/I2C0SDA, 10 PB.4/RXD1, 11 PB.5/TXD1, 12 PB.6/RTS1/ALE, 13 PB.7/CTS1/nCS, 14 LDO, 15 VDD, 16 VSS, 17 PB.0/RXD0, 18 PB.1/TXD0, 19 PB.2/RTS0/T2EX/nWRL, 20 PB.3/CTS0/T3EX/nWRH, 21 PD.6/CANRX0, 22 PD.7/CANTX0, 23 PD.14/RXD2, 24 PD.15/TXD2, 25 PC.3/MOSI00/I2SDO, 26 PC.2/MISO00/I2SDI, 27 PC.1/SPICLK0/I2SBCLK, 28 PC.0/SPISS00/I2SLRCLK, 29 PE.5/PWM5/T1EX, 30 PB.11/TM3/PWM4, 31 PB.10/TM2, 32 PB.9/TM1, 33 PC.11/MOSI10, 34 PC.10/MISO10, 35 PC.9/SPICLK1, 36 PC.8/SPISS10/MCLK, 37 PA.15/PWM3/I2SMCLK, 38 PA.14/PWM2/AD15, 39 PA.13/PWM1/AD14, 40 PA.12/PWM0/AD13, 41 ICE_DAT, 42 ICE_CK, 43 AVSS, 44 PA.0/ADC0, 45 PA.1/ADC1/AD12, 46 PA.2/ADC2/AD11, 47 PA.3/ADC3/AD10, 48 PA.4/ADC4/AD9, 49 PA.5/ADC5/AD8, 50 PA.6/ADC6/AD7, 51 PA.7/ADC7/AD6, 52 AVDD, 53 PC.7/CPN0/AD5, 54 PC.6/CPP0/AD4, 55 PC.15/CPN1/AD3, 56 PC.14/CPP1/AD2, 57 PB.15/INT1/T0EX, 58 XT1_OUT, 59 XT1_IN, 60 /RESET, 61 VSS, 62 VDD, 63 PVSS, 64 PB.8/TM0/STADC

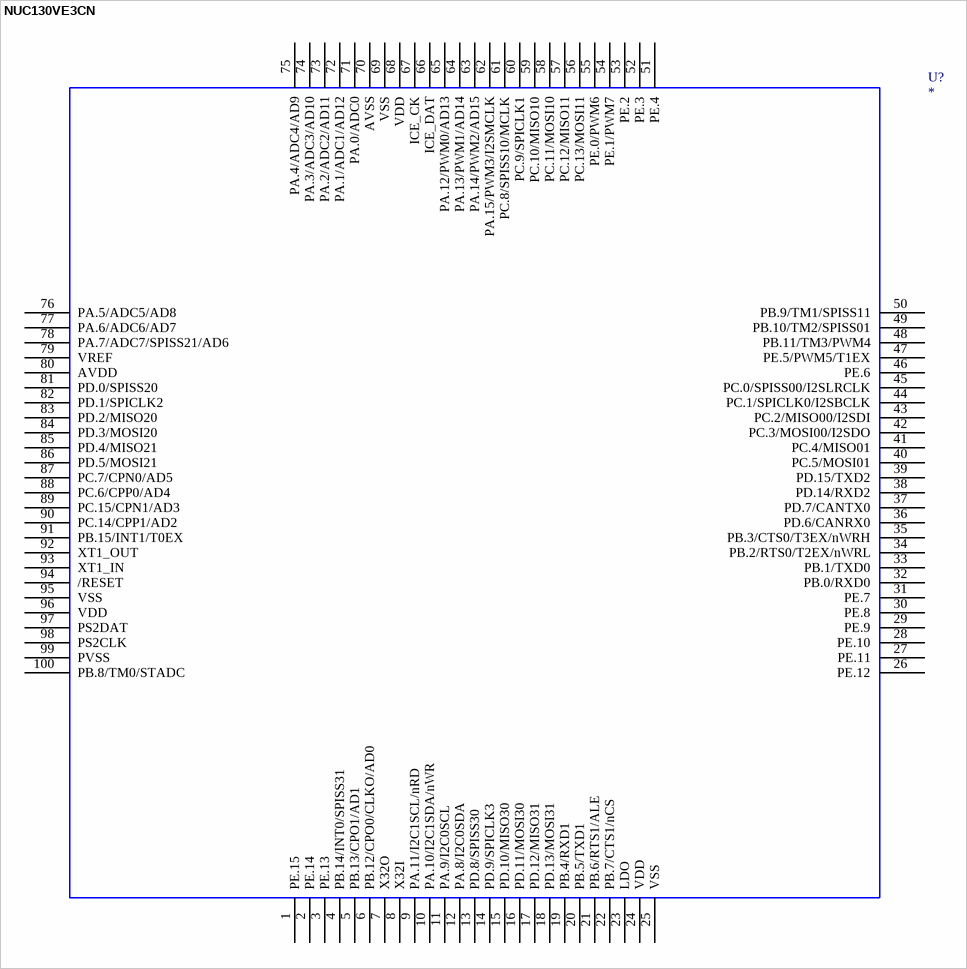
[diagram p130: symbol NUC130VE3CN]

## NUC130VE3CN
designator U?
OriginalSymbolOrigin: (0,0)
footprint MCU_LQFP_100
pins: 1 PE.15, 2 PE.14, 3 PE.13, 4 PB.14/INT0/SPISS31, 5 PB.13/CPO1/AD1, 6 PB.12/CPO0/CLKO/AD0, 7 X32O, 8 X32I, 9 PA.11/I2C1SCL/nRD, 10 PA.10/I2C1SDA/nWR, 11 PA.9/I2C0SCL, 12 PA.8/I2C0SDA, 13 PD.8/SPISS30, 14 PD.9/SPICLK3, 15 PD.10/MISO30, 16 PD.11/MOSI30, 17 PD.12/MISO31, 18 PD.13/MOSI31, 19 PB.4/RXD1, 20 PB.5/TXD1, 21 PB.6/RTS1/ALE, 22 PB.7/CTS1/nCS, 23 LDO, 24 VDD, 25 VSS, 26 PE.12, 27 PE.11, 28 PE.10, 29 PE.9, 30 PE.8, 31 PE.7, 32 PB.0/RXD0, 33 PB.1/TXD0, 34 PB.2/RTS0/T2EX/nWRL, 35 PB.3/CTS0/T3EX/nWRH, 36 PD.6/CANRX0, 37 PD.7/CANTX0, 38 PD.14/RXD2, 39 PD.15/TXD2, 40 PC.5/MOSI01, 41 PC.4/MISO01, 42 PC.3/MOSI00/I2SDO, 43 PC.2/MISO00/I2SDI, 44 PC.1/SPICLK0/I2SBCLK, 45 PC.0/SPISS00/I2SLRCLK, 46 PE.6, 47 PE.5/PWM5/T1EX, 48 PB.11/TM3/PWM4, 49 PB.10/TM2/SPISS01, 50 PB.9/TM1/SPISS11, 51 PE.4, 52 PE.3, 53 PE.2, 54 PE.1/PWM7, 55 PE.0/PWM6, 56 PC.13/MOSI11, 57 PC.12/MISO11, 58 PC.11/MOSI10, 59 PC.10/MISO10, 60 PC.9/SPICLK1, 61 PC.8/SPISS10/MCLK, 62 PA.15/PWM3/I2SMCLK, 63 PA.14/PWM2/AD15, 64 PA.13/PWM1/AD14, 65 PA.12/PWM0/AD13, 66 ICE_DAT, 67 ICE_CK, 68 VDD, 69 VSS, 70 AVSS, 71 PA.0/ADC0, 72 PA.1/ADC1/AD12, 73 PA.2/ADC2/AD11, 74 PA.3/ADC3/AD10, 75 PA.4/ADC4/AD9, 76 PA.5/ADC5/AD8, 77 PA.6/ADC6/AD7, 78 PA.7/ADC7/SPISS21/AD6, 79 VREF, 80 AVDD, 81 PD.0/SPISS20, 82 PD.1/SPICLK2, 83 PD.2/MISO20, 84 PD.3/MOSI20, 85 PD.4/MISO21, 86 PD.5/MOSI21, 87 PC.7/CPN0/AD5, 88 PC.6/CPP0/AD4, 89 PC.15/CPN1/AD3, 90 PC.14/CPP1/AD2, 91 PB.15/INT1/T0EX, 92 XT1_OUT, 93 XT1_IN, 94 /RESET, 95 VSS, 96 VDD, 97 PS2DAT, 98 PS2CLK, 99 PVSS, 100 PB.8/TM0/STADC

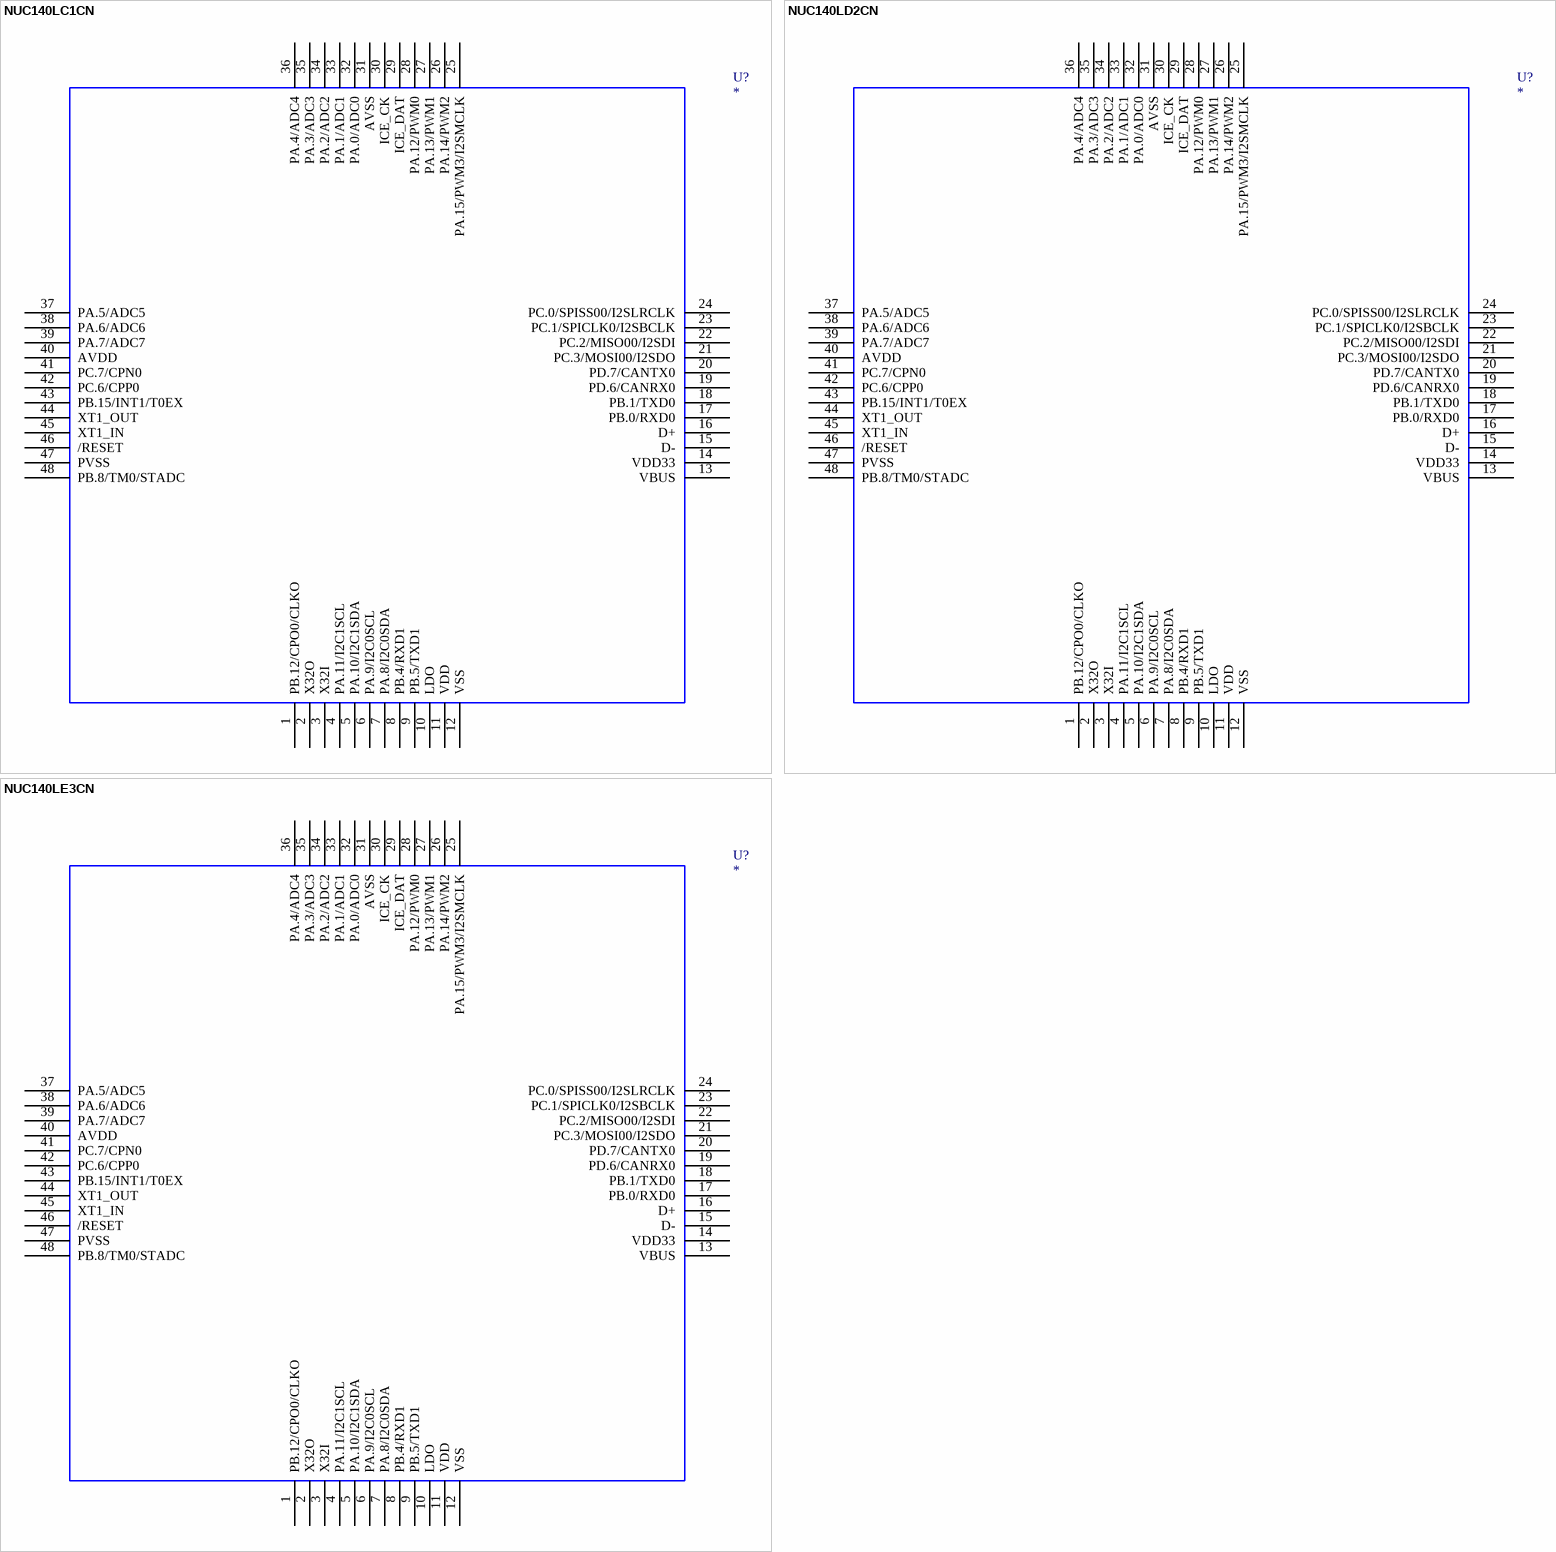
[diagram p131: symbols NUC140LC1CN to NUC140LE3CN]

## NUC140LC1CN
designator U?
OriginalSymbolOrigin: (0,0)
footprint MCU_LQFP_48
pins: 1 PB.12/CPO0/CLKO, 2 X32O, 3 X32I, 4 PA.11/I2C1SCL, 5 PA.10/I2C1SDA, 6 PA.9/I2C0SCL, 7 PA.8/I2C0SDA, 8 PB.4/RXD1, 9 PB.5/TXD1, 10 LDO, 11 VDD, 12 VSS, 13 VBUS, 14 VDD33, 15 D-, 16 D+, 17 PB.0/RXD0, 18 PB.1/TXD0, 19 PD.6/CANRX0, 20 PD.7/CANTX0, 21 PC.3/MOSI00/I2SDO, 22 PC.2/MISO00/I2SDI, 23 PC.1/SPICLK0/I2SBCLK, 24 PC.0/SPISS00/I2SLRCLK, 25 PA.15/PWM3/I2SMCLK, 26 PA.14/PWM2, 27 PA.13/PWM1, 28 PA.12/PWM0, 29 ICE_DAT, 30 ICE_CK, 31 AVSS, 32 PA.0/ADC0, 33 PA.1/ADC1, 34 PA.2/ADC2, 35 PA.3/ADC3, 36 PA.4/ADC4, 37 PA.5/ADC5, 38 PA.6/ADC6, 39 PA.7/ADC7, 40 AVDD, 41 PC.7/CPN0, 42 PC.6/CPP0, 43 PB.15/INT1/T0EX, 44 XT1_OUT, 45 XT1_IN, 46 /RESET, 47 PVSS, 48 PB.8/TM0/STADC

## NUC140LD2CN
designator U?
OriginalSymbolOrigin: (0,0)
footprint MCU_LQFP_48
pins: 1 PB.12/CPO0/CLKO, 2 X32O, 3 X32I, 4 PA.11/I2C1SCL, 5 PA.10/I2C1SDA, 6 PA.9/I2C0SCL, 7 PA.8/I2C0SDA, 8 PB.4/RXD1, 9 PB.5/TXD1, 10 LDO, 11 VDD, 12 VSS, 13 VBUS, 14 VDD33, 15 D-, 16 D+, 17 PB.0/RXD0, 18 PB.1/TXD0, 19 PD.6/CANRX0, 20 PD.7/CANTX0, 21 PC.3/MOSI00/I2SDO, 22 PC.2/MISO00/I2SDI, 23 PC.1/SPICLK0/I2SBCLK, 24 PC.0/SPISS00/I2SLRCLK, 25 PA.15/PWM3/I2SMCLK, 26 PA.14/PWM2, 27 PA.13/PWM1, 28 PA.12/PWM0, 29 ICE_DAT, 30 ICE_CK, 31 AVSS, 32 PA.0/ADC0, 33 PA.1/ADC1, 34 PA.2/ADC2, 35 PA.3/ADC3, 36 PA.4/ADC4, 37 PA.5/ADC5, 38 PA.6/ADC6, 39 PA.7/ADC7, 40 AVDD, 41 PC.7/CPN0, 42 PC.6/CPP0, 43 PB.15/INT1/T0EX, 44 XT1_OUT, 45 XT1_IN, 46 /RESET, 47 PVSS, 48 PB.8/TM0/STADC

## NUC140LE3CN
designator U?
OriginalSymbolOrigin: (0,0)
footprint MCU_LQFP_48
pins: 1 PB.12/CPO0/CLKO, 2 X32O, 3 X32I, 4 PA.11/I2C1SCL, 5 PA.10/I2C1SDA, 6 PA.9/I2C0SCL, 7 PA.8/I2C0SDA, 8 PB.4/RXD1, 9 PB.5/TXD1, 10 LDO, 11 VDD, 12 VSS, 13 VBUS, 14 VDD33, 15 D-, 16 D+, 17 PB.0/RXD0, 18 PB.1/TXD0, 19 PD.6/CANRX0, 20 PD.7/CANTX0, 21 PC.3/MOSI00/I2SDO, 22 PC.2/MISO00/I2SDI, 23 PC.1/SPICLK0/I2SBCLK, 24 PC.0/SPISS00/I2SLRCLK, 25 PA.15/PWM3/I2SMCLK, 26 PA.14/PWM2, 27 PA.13/PWM1, 28 PA.12/PWM0, 29 ICE_DAT, 30 ICE_CK, 31 AVSS, 32 PA.0/ADC0, 33 PA.1/ADC1, 34 PA.2/ADC2, 35 PA.3/ADC3, 36 PA.4/ADC4, 37 PA.5/ADC5, 38 PA.6/ADC6, 39 PA.7/ADC7, 40 AVDD, 41 PC.7/CPN0, 42 PC.6/CPP0, 43 PB.15/INT1/T0EX, 44 XT1_OUT, 45 XT1_IN, 46 /RESET, 47 PVSS, 48 PB.8/TM0/STADC

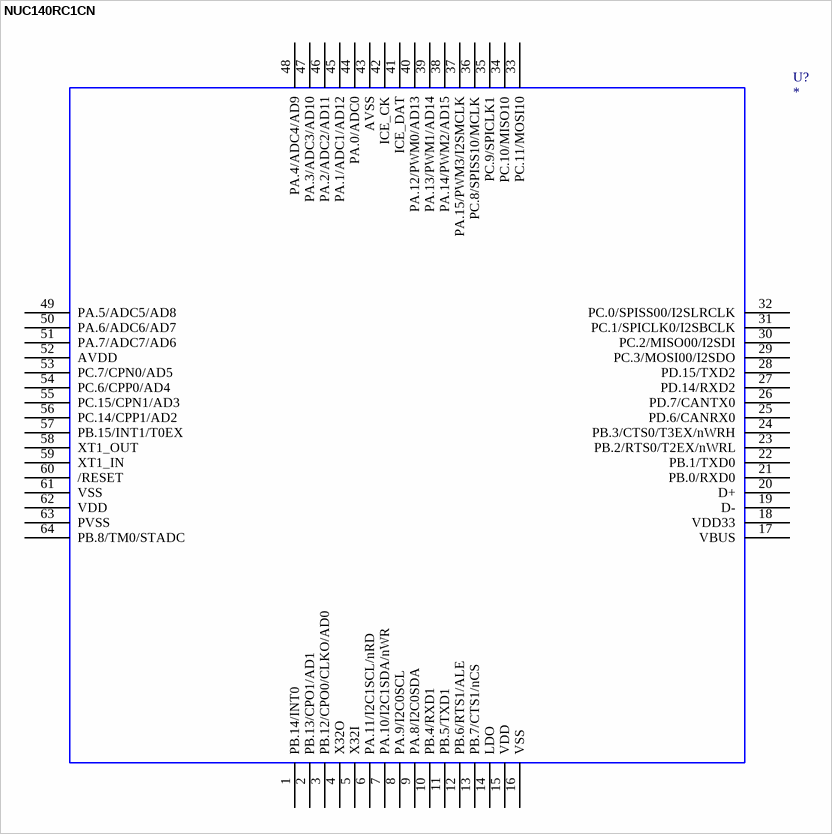
[diagram p132: symbol NUC140RC1CN]

## NUC140RC1CN
designator U?
OriginalSymbolOrigin: (0,0)
footprint MCU_LQFP_64_10x10
pins: 1 PB.14/INT0, 2 PB.13/CPO1/AD1, 3 PB.12/CPO0/CLKO/AD0, 4 X32O, 5 X32I, 6 PA.11/I2C1SCL/nRD, 7 PA.10/I2C1SDA/nWR, 8 PA.9/I2C0SCL, 9 PA.8/I2C0SDA, 10 PB.4/RXD1, 11 PB.5/TXD1, 12 PB.6/RTS1/ALE, 13 PB.7/CTS1/nCS, 14 LDO, 15 VDD, 16 VSS, 17 VBUS, 18 VDD33, 19 D-, 20 D+, 21 PB.0/RXD0, 22 PB.1/TXD0, 23 PB.2/RTS0/T2EX/nWRL, 24 PB.3/CTS0/T3EX/nWRH, 25 PD.6/CANRX0, 26 PD.7/CANTX0, 27 PD.14/RXD2, 28 PD.15/TXD2, 29 PC.3/MOSI00/I2SDO, 30 PC.2/MISO00/I2SDI, 31 PC.1/SPICLK0/I2SBCLK, 32 PC.0/SPISS00/I2SLRCLK, 33 PC.11/MOSI10, 34 PC.10/MISO10, 35 PC.9/SPICLK1, 36 PC.8/SPISS10/MCLK, 37 PA.15/PWM3/I2SMCLK, 38 PA.14/PWM2/AD15, 39 PA.13/PWM1/AD14, 40 PA.12/PWM0/AD13, 41 ICE_DAT, 42 ICE_CK, 43 AVSS, 44 PA.0/ADC0, 45 PA.1/ADC1/AD12, 46 PA.2/ADC2/AD11, 47 PA.3/ADC3/AD10, 48 PA.4/ADC4/AD9, 49 PA.5/ADC5/AD8, 50 PA.6/ADC6/AD7, 51 PA.7/ADC7/AD6, 52 AVDD, 53 PC.7/CPN0/AD5, 54 PC.6/CPP0/AD4, 55 PC.15/CPN1/AD3, 56 PC.14/CPP1/AD2, 57 PB.15/INT1/T0EX, 58 XT1_OUT, 59 XT1_IN, 60 /RESET, 61 VSS, 62 VDD, 63 PVSS, 64 PB.8/TM0/STADC

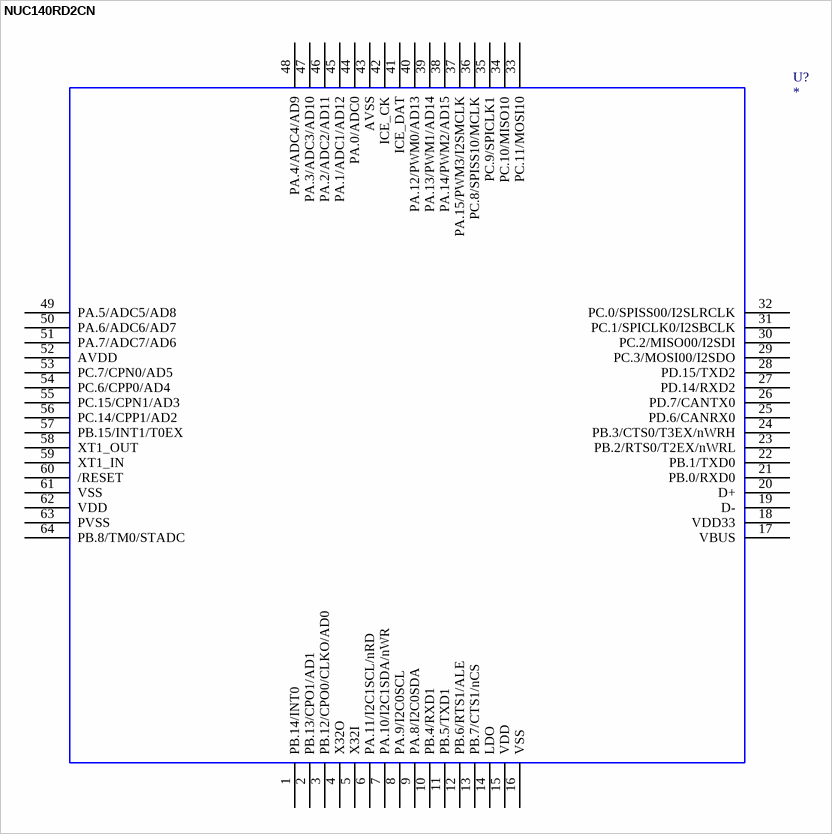
[diagram p133: symbol NUC140RD2CN]

## NUC140RD2CN
designator U?
OriginalSymbolOrigin: (0,0)
footprint MCU_LQFP_64_10x10
pins: 1 PB.14/INT0, 2 PB.13/CPO1/AD1, 3 PB.12/CPO0/CLKO/AD0, 4 X32O, 5 X32I, 6 PA.11/I2C1SCL/nRD, 7 PA.10/I2C1SDA/nWR, 8 PA.9/I2C0SCL, 9 PA.8/I2C0SDA, 10 PB.4/RXD1, 11 PB.5/TXD1, 12 PB.6/RTS1/ALE, 13 PB.7/CTS1/nCS, 14 LDO, 15 VDD, 16 VSS, 17 VBUS, 18 VDD33, 19 D-, 20 D+, 21 PB.0/RXD0, 22 PB.1/TXD0, 23 PB.2/RTS0/T2EX/nWRL, 24 PB.3/CTS0/T3EX/nWRH, 25 PD.6/CANRX0, 26 PD.7/CANTX0, 27 PD.14/RXD2, 28 PD.15/TXD2, 29 PC.3/MOSI00/I2SDO, 30 PC.2/MISO00/I2SDI, 31 PC.1/SPICLK0/I2SBCLK, 32 PC.0/SPISS00/I2SLRCLK, 33 PC.11/MOSI10, 34 PC.10/MISO10, 35 PC.9/SPICLK1, 36 PC.8/SPISS10/MCLK, 37 PA.15/PWM3/I2SMCLK, 38 PA.14/PWM2/AD15, 39 PA.13/PWM1/AD14, 40 PA.12/PWM0/AD13, 41 ICE_DAT, 42 ICE_CK, 43 AVSS, 44 PA.0/ADC0, 45 PA.1/ADC1/AD12, 46 PA.2/ADC2/AD11, 47 PA.3/ADC3/AD10, 48 PA.4/ADC4/AD9, 49 PA.5/ADC5/AD8, 50 PA.6/ADC6/AD7, 51 PA.7/ADC7/AD6, 52 AVDD, 53 PC.7/CPN0/AD5, 54 PC.6/CPP0/AD4, 55 PC.15/CPN1/AD3, 56 PC.14/CPP1/AD2, 57 PB.15/INT1/T0EX, 58 XT1_OUT, 59 XT1_IN, 60 /RESET, 61 VSS, 62 VDD, 63 PVSS, 64 PB.8/TM0/STADC

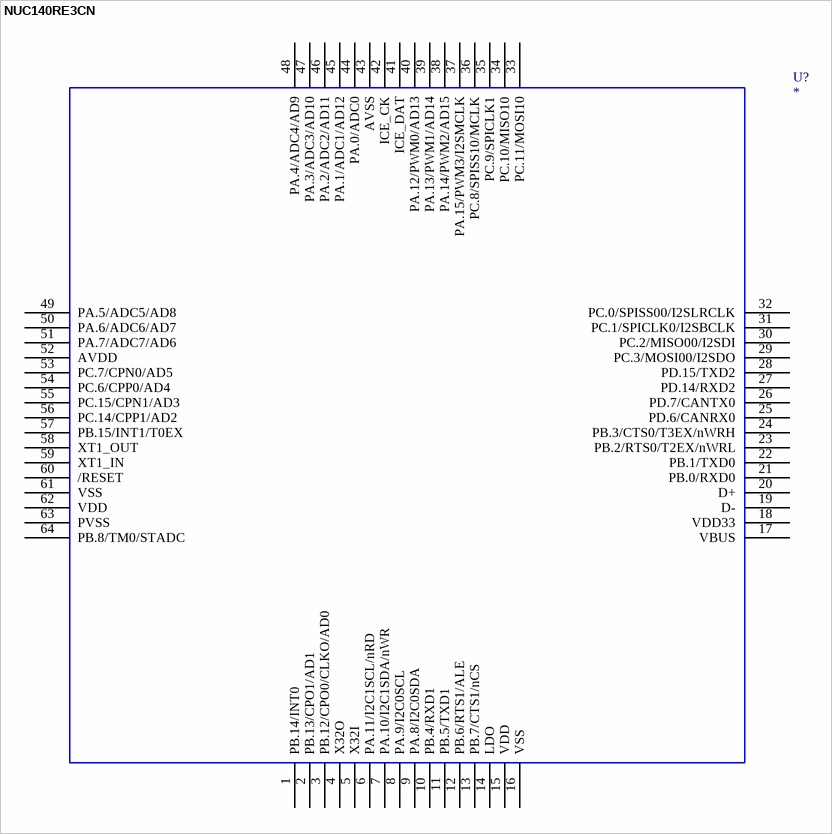
[diagram p134: symbol NUC140RE3CN]

## NUC140RE3CN
designator U?
OriginalSymbolOrigin: (0,0)
footprint MCU_LQFP_64_10x10
pins: 1 PB.14/INT0, 2 PB.13/CPO1/AD1, 3 PB.12/CPO0/CLKO/AD0, 4 X32O, 5 X32I, 6 PA.11/I2C1SCL/nRD, 7 PA.10/I2C1SDA/nWR, 8 PA.9/I2C0SCL, 9 PA.8/I2C0SDA, 10 PB.4/RXD1, 11 PB.5/TXD1, 12 PB.6/RTS1/ALE, 13 PB.7/CTS1/nCS, 14 LDO, 15 VDD, 16 VSS, 17 VBUS, 18 VDD33, 19 D-, 20 D+, 21 PB.0/RXD0, 22 PB.1/TXD0, 23 PB.2/RTS0/T2EX/nWRL, 24 PB.3/CTS0/T3EX/nWRH, 25 PD.6/CANRX0, 26 PD.7/CANTX0, 27 PD.14/RXD2, 28 PD.15/TXD2, 29 PC.3/MOSI00/I2SDO, 30 PC.2/MISO00/I2SDI, 31 PC.1/SPICLK0/I2SBCLK, 32 PC.0/SPISS00/I2SLRCLK, 33 PC.11/MOSI10, 34 PC.10/MISO10, 35 PC.9/SPICLK1, 36 PC.8/SPISS10/MCLK, 37 PA.15/PWM3/I2SMCLK, 38 PA.14/PWM2/AD15, 39 PA.13/PWM1/AD14, 40 PA.12/PWM0/AD13, 41 ICE_DAT, 42 ICE_CK, 43 AVSS, 44 PA.0/ADC0, 45 PA.1/ADC1/AD12, 46 PA.2/ADC2/AD11, 47 PA.3/ADC3/AD10, 48 PA.4/ADC4/AD9, 49 PA.5/ADC5/AD8, 50 PA.6/ADC6/AD7, 51 PA.7/ADC7/AD6, 52 AVDD, 53 PC.7/CPN0/AD5, 54 PC.6/CPP0/AD4, 55 PC.15/CPN1/AD3, 56 PC.14/CPP1/AD2, 57 PB.15/INT1/T0EX, 58 XT1_OUT, 59 XT1_IN, 60 /RESET, 61 VSS, 62 VDD, 63 PVSS, 64 PB.8/TM0/STADC

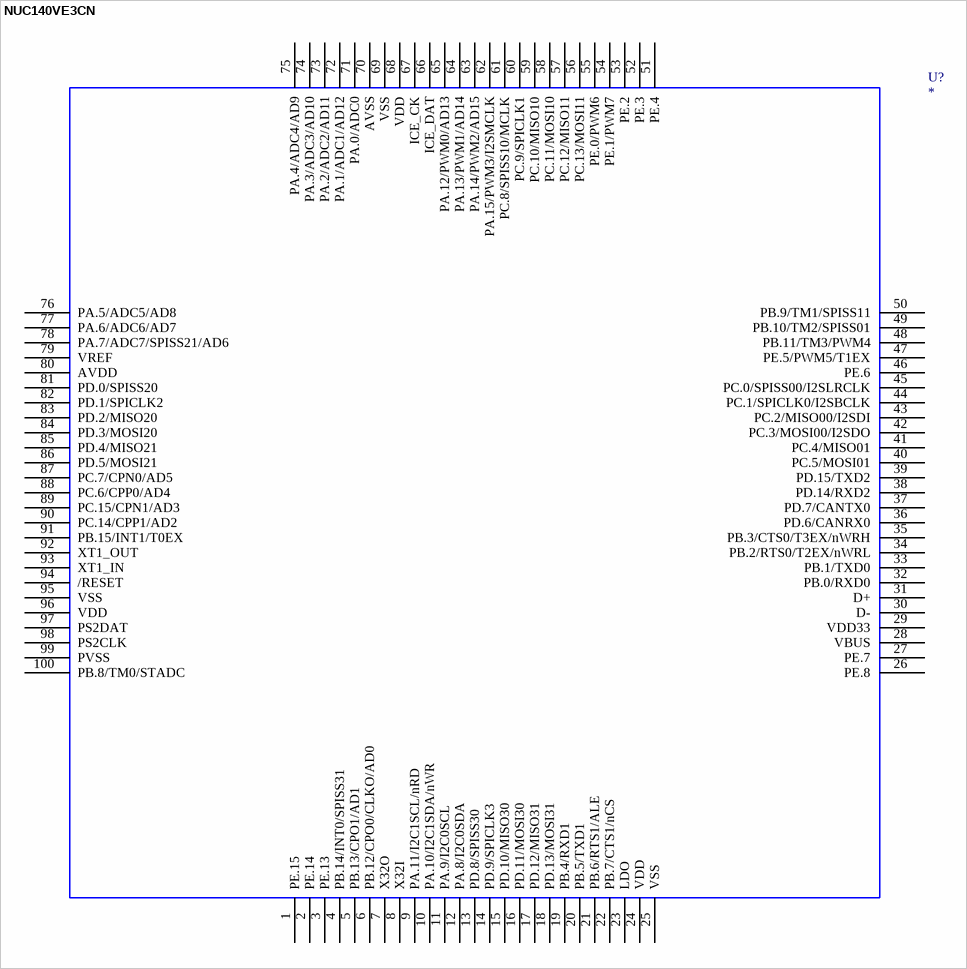
[diagram p135: symbol NUC140VE3CN]

## NUC140VE3CN
designator U?
OriginalSymbolOrigin: (0,0)
footprint MCU_LQFP_100
pins: 1 PE.15, 2 PE.14, 3 PE.13, 4 PB.14/INT0/SPISS31, 5 PB.13/CPO1/AD1, 6 PB.12/CPO0/CLKO/AD0, 7 X32O, 8 X32I, 9 PA.11/I2C1SCL/nRD, 10 PA.10/I2C1SDA/nWR, 11 PA.9/I2C0SCL, 12 PA.8/I2C0SDA, 13 PD.8/SPISS30, 14 PD.9/SPICLK3, 15 PD.10/MISO30, 16 PD.11/MOSI30, 17 PD.12/MISO31, 18 PD.13/MOSI31, 19 PB.4/RXD1, 20 PB.5/TXD1, 21 PB.6/RTS1/ALE, 22 PB.7/CTS1/nCS, 23 LDO, 24 VDD, 25 VSS, 26 PE.8, 27 PE.7, 28 VBUS, 29 VDD33, 30 D-, 31 D+, 32 PB.0/RXD0, 33 PB.1/TXD0, 34 PB.2/RTS0/T2EX/nWRL, 35 PB.3/CTS0/T3EX/nWRH, 36 PD.6/CANRX0, 37 PD.7/CANTX0, 38 PD.14/RXD2, 39 PD.15/TXD2, 40 PC.5/MOSI01, 41 PC.4/MISO01, 42 PC.3/MOSI00/I2SDO, 43 PC.2/MISO00/I2SDI, 44 PC.1/SPICLK0/I2SBCLK, 45 PC.0/SPISS00/I2SLRCLK, 46 PE.6, 47 PE.5/PWM5/T1EX, 48 PB.11/TM3/PWM4, 49 PB.10/TM2/SPISS01, 50 PB.9/TM1/SPISS11, 51 PE.4, 52 PE.3, 53 PE.2, 54 PE.1/PWM7, 55 PE.0/PWM6, 56 PC.13/MOSI11, 57 PC.12/MISO11, 58 PC.11/MOSI10, 59 PC.10/MISO10, 60 PC.9/SPICLK1, 61 PC.8/SPISS10/MCLK, 62 PA.15/PWM3/I2SMCLK, 63 PA.14/PWM2/AD15, 64 PA.13/PWM1/AD14, 65 PA.12/PWM0/AD13, 66 ICE_DAT, 67 ICE_CK, 68 VDD, 69 VSS, 70 AVSS, 71 PA.0/ADC0, 72 PA.1/ADC1/AD12, 73 PA.2/ADC2/AD11, 74 PA.3/ADC3/AD10, 75 PA.4/ADC4/AD9, 76 PA.5/ADC5/AD8, 77 PA.6/ADC6/AD7, 78 PA.7/ADC7/SPISS21/AD6, 79 VREF, 80 AVDD, 81 PD.0/SPISS20, 82 PD.1/SPICLK2, 83 PD.2/MISO20, 84 PD.3/MOSI20, 85 PD.4/MISO21, 86 PD.5/MOSI21, 87 PC.7/CPN0/AD5, 88 PC.6/CPP0/AD4, 89 PC.15/CPN1/AD3, 90 PC.14/CPP1/AD2, 91 PB.15/INT1/T0EX, 92 XT1_OUT, 93 XT1_IN, 94 /RESET, 95 VSS, 96 VDD, 97 PS2DAT, 98 PS2CLK, 99 PVSS, 100 PB.8/TM0/STADC


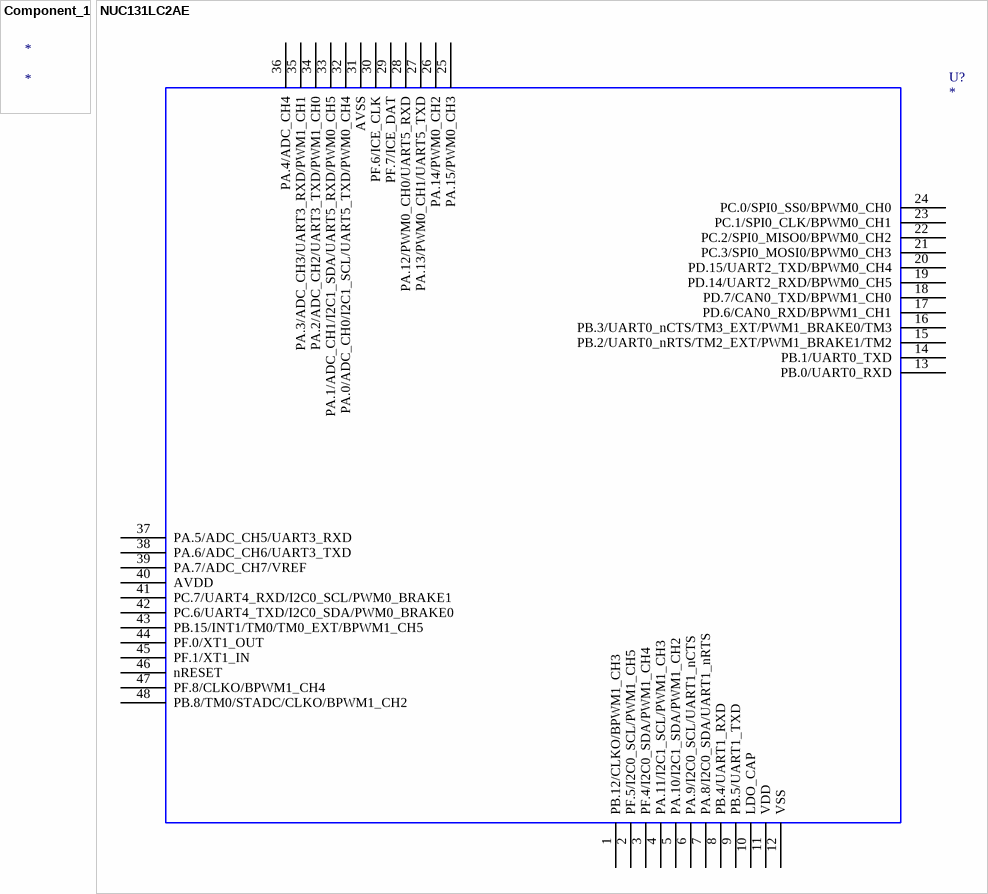
[diagram p136: symbols Component_1 to NUC131LC2AE]

## Component_1
designator *

## NUC131LC2AE
designator U?
OriginalSymbolOrigin: (0,0)
footprint MCU_LQFP_48
pins: 1 PB.12/CLKO/BPWM1_CH3, 2 PF.5/I2C0_SCL/PWM1_CH5, 3 PF.4/I2C0_SDA/PWM1_CH4, 4 PA.11/I2C1_SCL/PWM1_CH3, 5 PA.10/I2C1_SDA/PWM1_CH2, 6 PA.9/I2C0_SCL/UART1_nCTS, 7 PA.8/I2C0_SDA/UART1_nRTS, 8 PB.4/UART1_RXD, 9 PB.5/UART1_TXD, 10 LDO_CAP, 11 VDD, 12 VSS, 13 PB.0/UART0_RXD, 14 PB.1/UART0_TXD, 15 PB.2/UART0_nRTS/TM2_EXT/PWM1_BRAKE1/TM2, 16 PB.3/UART0_nCTS/TM3_EXT/PWM1_BRAKE0/TM3, 17 PD.6/CAN0_RXD/BPWM1_CH1, 18 PD.7/CAN0_TXD/BPWM1_CH0, 19 PD.14/UART2_RXD/BPWM0_CH5, 20 PD.15/UART2_TXD/BPWM0_CH4, 21 PC.3/SPI0_MOSI0/BPWM0_CH3, 22 PC.2/SPI0_MISO0/BPWM0_CH2, 23 PC.1/SPI0_CLK/BPWM0_CH1, 24 PC.0/SPI0_SS0/BPWM0_CH0, 25 PA.15/PWM0_CH3, 26 PA.14/PWM0_CH2, 27 PA.13/PWM0_CH1/UART5_TXD, 28 PA.12/PWM0_CH0/UART5_RXD, 29 PF.7/ICE_DAT, 30 PF.6/ICE_CLK, 31 AVSS, 32 PA.0/ADC_CH0/I2C1_SCL/UART5_TXD/PWM0_CH4, 33 PA.1/ADC_CH1/I2C1_SDA/UART5_RXD/PWM0_CH5, 34 PA.2/ADC_CH2/UART3_TXD/PWM1_CH0, 35 PA.3/ADC_CH3/UART3_RXD/PWM1_CH1, 36 PA.4/ADC_CH4, 37 PA.5/ADC_CH5/UART3_RXD, 38 PA.6/ADC_CH6/UART3_TXD, 39 PA.7/ADC_CH7/VREF, 40 AVDD, 41 PC.7/UART4_RXD/I2C0_SCL/PWM0_BRAKE1, 42 PC.6/UART4_TXD/I2C0_SDA/PWM0_BRAKE0, 43 PB.15/INT1/TM0/TM0_EXT/BPWM1_CH5, 44 PF.0/XT1_OUT, 45 PF.1/XT1_IN, 46 nRESET, 47 PF.8/CLKO/BPWM1_CH4, 48 PB.8/TM0/STADC/CLKO/BPWM1_CH2

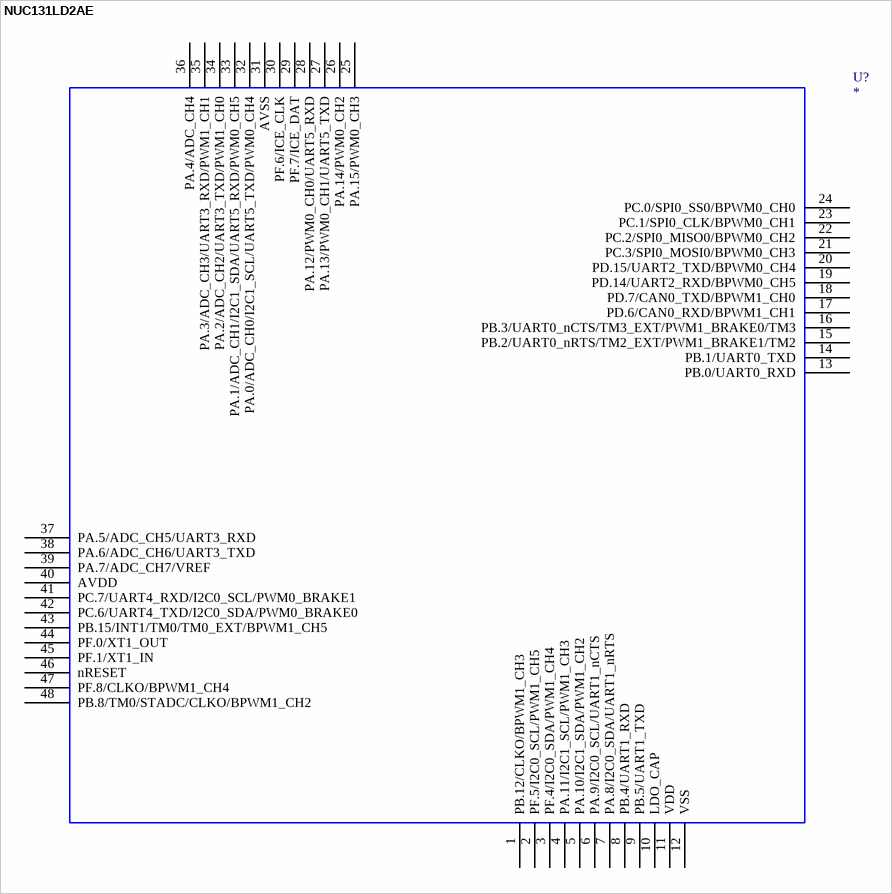
[diagram p137: symbol NUC131LD2AE]

## NUC131LD2AE
designator U?
OriginalSymbolOrigin: (0,0)
footprint MCU_LQFP_48
pins: 1 PB.12/CLKO/BPWM1_CH3, 2 PF.5/I2C0_SCL/PWM1_CH5, 3 PF.4/I2C0_SDA/PWM1_CH4, 4 PA.11/I2C1_SCL/PWM1_CH3, 5 PA.10/I2C1_SDA/PWM1_CH2, 6 PA.9/I2C0_SCL/UART1_nCTS, 7 PA.8/I2C0_SDA/UART1_nRTS, 8 PB.4/UART1_RXD, 9 PB.5/UART1_TXD, 10 LDO_CAP, 11 VDD, 12 VSS, 13 PB.0/UART0_RXD, 14 PB.1/UART0_TXD, 15 PB.2/UART0_nRTS/TM2_EXT/PWM1_BRAKE1/TM2, 16 PB.3/UART0_nCTS/TM3_EXT/PWM1_BRAKE0/TM3, 17 PD.6/CAN0_RXD/BPWM1_CH1, 18 PD.7/CAN0_TXD/BPWM1_CH0, 19 PD.14/UART2_RXD/BPWM0_CH5, 20 PD.15/UART2_TXD/BPWM0_CH4, 21 PC.3/SPI0_MOSI0/BPWM0_CH3, 22 PC.2/SPI0_MISO0/BPWM0_CH2, 23 PC.1/SPI0_CLK/BPWM0_CH1, 24 PC.0/SPI0_SS0/BPWM0_CH0, 25 PA.15/PWM0_CH3, 26 PA.14/PWM0_CH2, 27 PA.13/PWM0_CH1/UART5_TXD, 28 PA.12/PWM0_CH0/UART5_RXD, 29 PF.7/ICE_DAT, 30 PF.6/ICE_CLK, 31 AVSS, 32 PA.0/ADC_CH0/I2C1_SCL/UART5_TXD/PWM0_CH4, 33 PA.1/ADC_CH1/I2C1_SDA/UART5_RXD/PWM0_CH5, 34 PA.2/ADC_CH2/UART3_TXD/PWM1_CH0, 35 PA.3/ADC_CH3/UART3_RXD/PWM1_CH1, 36 PA.4/ADC_CH4, 37 PA.5/ADC_CH5/UART3_RXD, 38 PA.6/ADC_CH6/UART3_TXD, 39 PA.7/ADC_CH7/VREF, 40 AVDD, 41 PC.7/UART4_RXD/I2C0_SCL/PWM0_BRAKE1, 42 PC.6/UART4_TXD/I2C0_SDA/PWM0_BRAKE0, 43 PB.15/INT1/TM0/TM0_EXT/BPWM1_CH5, 44 PF.0/XT1_OUT, 45 PF.1/XT1_IN, 46 nRESET, 47 PF.8/CLKO/BPWM1_CH4, 48 PB.8/TM0/STADC/CLKO/BPWM1_CH2